# Altium integrated library Xilinx XC4000.IntLib: 294 symbols (part 3 of 21)
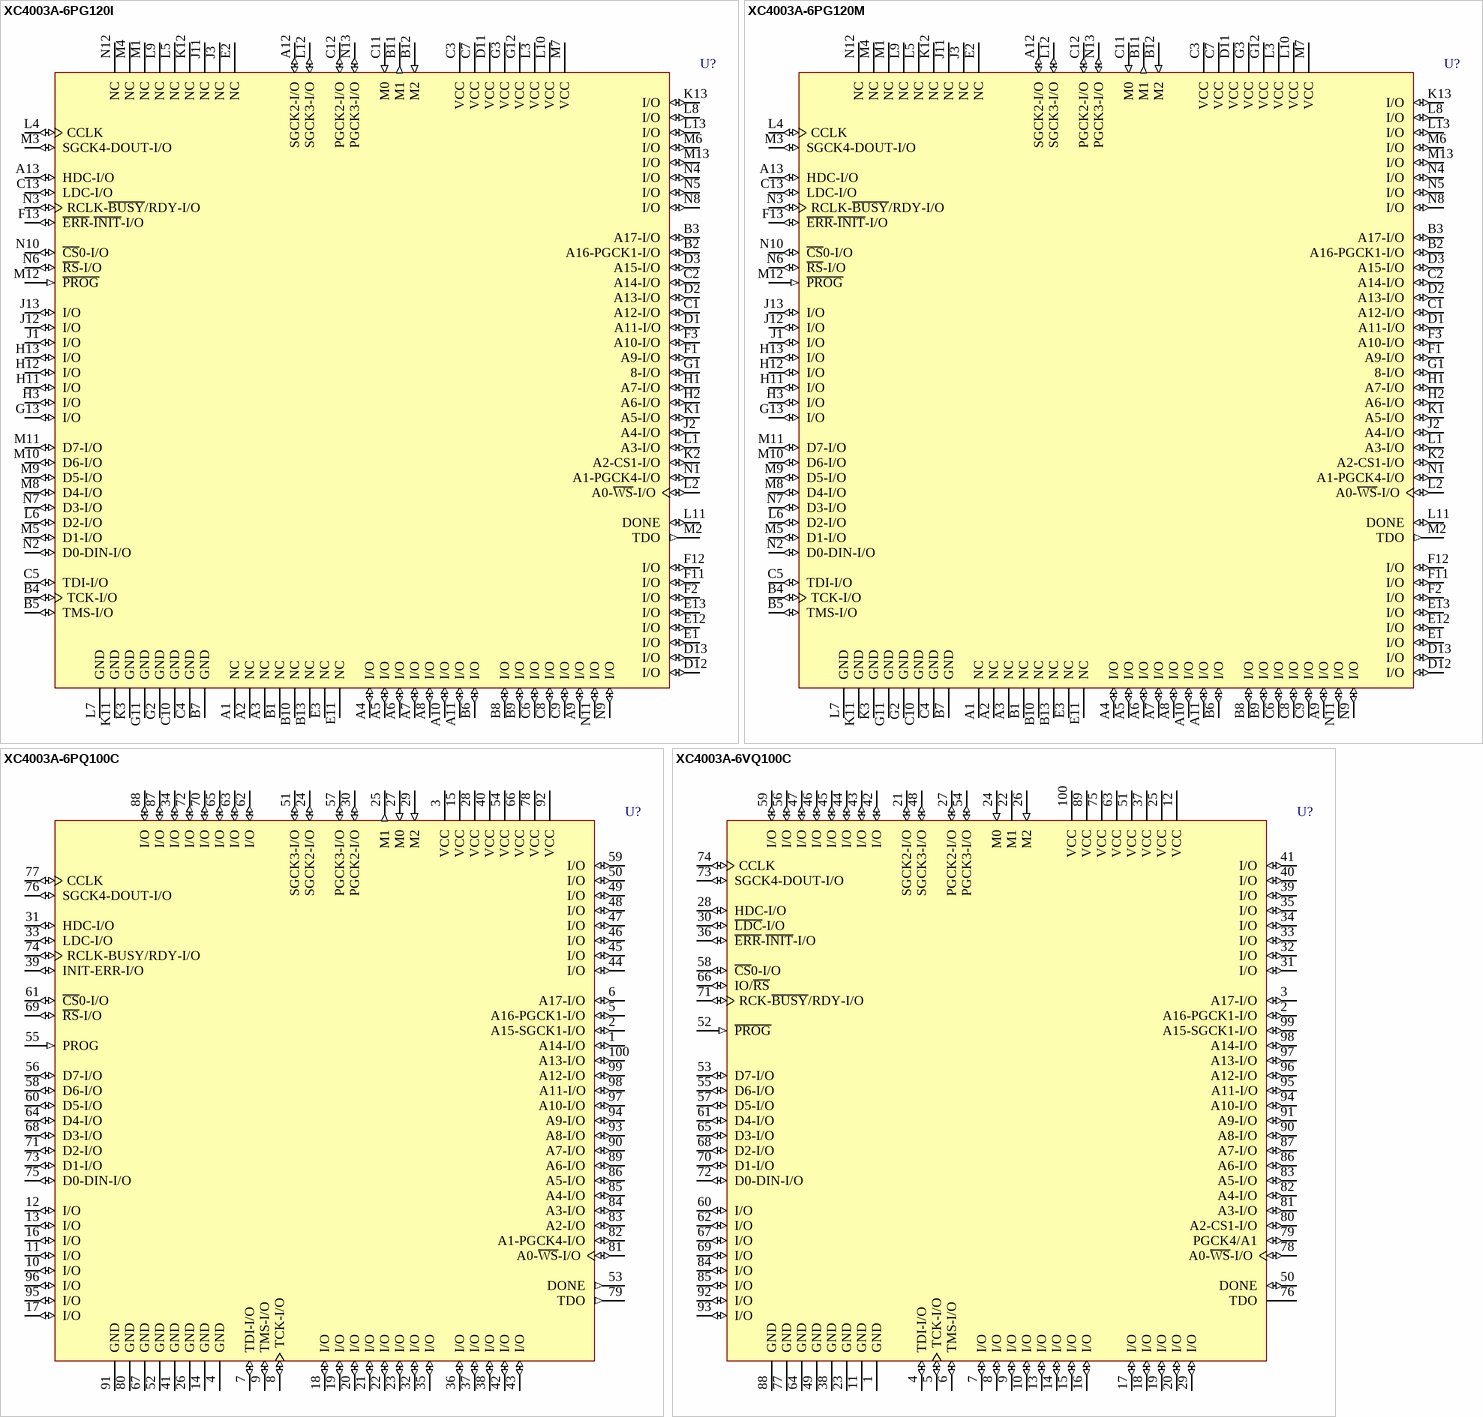
[diagram p231: symbols XC4003A-6PG120I to XC4003A-6VQ100C]

## XC4003A-6VQ100C
designator U?
Logic Cell Array, with 77 I/O Pins, 100-Pin VQFP, Commercial Grade; ComponentAvailability: Not for New Design; Published: 8-Jun-2000; LatestRevisionDate: 13-Apr-2006; LatestRevisionNote: IPC-7351 Footprint Added.; DatasheetVersion: 1994; PackageVersion: ver1.2, Jun-2004; PackageReference: VQ100; Publisher: Altium Limited; PackageDescription: 100-Pin Very Thin Quad Flat Pack (VQ100); Code_JEDEC: MS-026-AED; ComponentLink1Description: Manufacturer Link; ComponentLink1URL: http://www.xilinx.com/; ComponentLink2Description: Datasheet; ComponentLink2URL: http://direct.xilinx.com/bvdocs/publications/4000.pdf
footprint VQ100_N (Thin QFP, 100-Leads, Body 14x14mm, Pitch 0.5mm, IPC Medium Density)
footprint VQ100_L (Thin QFP, 100-Leads, Body 14x14mm, Pitch 0.5mm, IPC High Density)
footprint VQ100_M (Thin QFP, 100-Leads, Body 14x14mm, Pitch 0.5mm, IPC Low Density)
3D model XC4003A-VQ100 (100-Pin Very Thin Quad Flat Pack (VQ100))
pins: 1 GND (power), 2 A16-PGCK1-I/O (io), 3 A17-I/O (io), 4 TDI-I/O (io), 5 TCK-I/O (io), 6 TMS-I/O (io), 7 I/O (io), 8 I/O (io), 9 I/O (io), 10 I/O (io), 11 GND (power), 12 VCC (power), 13 I/O (io), 14 I/O (io), 15 I/O (io), 16 I/O (io), 17 I/O (io), 18 I/O (io), 19 I/O (io), 20 I/O (io), 21 SGCK2-I/O (io), 22 M1 (hiz), 23 GND (power), 24 M0 (in), 25 VCC (power), 26 M2 (in), 27 PGCK2-I/O (io), 28 HDC-I/O (io), 29 I/O (io), 30 ~{LDC}-I/O (io), 31 I/O (io), 32 I/O (io), 33 I/O (io), 34 I/O (io), 35 I/O (io), 36 ~{ERR}-~{INIT}-I/O (io), 37 VCC (power), 38 GND (power), 39 I/O (io), 40 I/O (io), 41 I/O (io), 42 I/O (io), 43 I/O (io), 44 I/O (io), 45 I/O (io), 46 I/O (io), 47 I/O (io), 48 SGCK3-I/O (io), 49 GND (power), 50 DONE (io), 51 VCC (power), 52 ~{PROG} (in), 53 D7-I/O (io), 54 PGCK3-I/O (io), 55 D6-I/O (io), 56 I/O (io), 57 D5-I/O (io), 58 ~{CS}0-I/O (io), 59 I/O (io), 60 I/O (io), 61 D4-I/O (io), 62 I/O (io), 63 VCC (power), 64 GND (power), 65 D3-I/O (io), 66 IO/~{RS} (io), 67 I/O (io), 68 D2-I/O (io), 69 I/O (io), 70 D1-I/O (io), 71 RCK-~{BUSY}/RDY-I/O (io), 72 D0-DIN-I/O (io), 73 SGCK4-DOUT-I/O (io), 74 CCLK (io), 75 VCC (power), 76 TDO (hiz), 77 GND (power), 78 A0-~{WS}-I/O (io), 79 PGCK4/A1 (io), 80 A2-CS1-I/O (io), 81 A3-I/O (io), 82 A4-I/O (io), 83 A5-I/O (io), 84 I/O (io), 85 I/O (io), 86 A6-I/O (io), 87 A7-I/O (io), 88 GND (power), 89 VCC (power), 90 A8-I/O (io), 91 A9-I/O (io), 92 I/O (io), 93 I/O (io), 94 A10-I/O (io), 95 A11-I/O (io), 96 A12-I/O (io), 97 A13-I/O (io), 98 A14-I/O (io), 99 A15-SGCK1-I/O (io), 100 VCC (power)

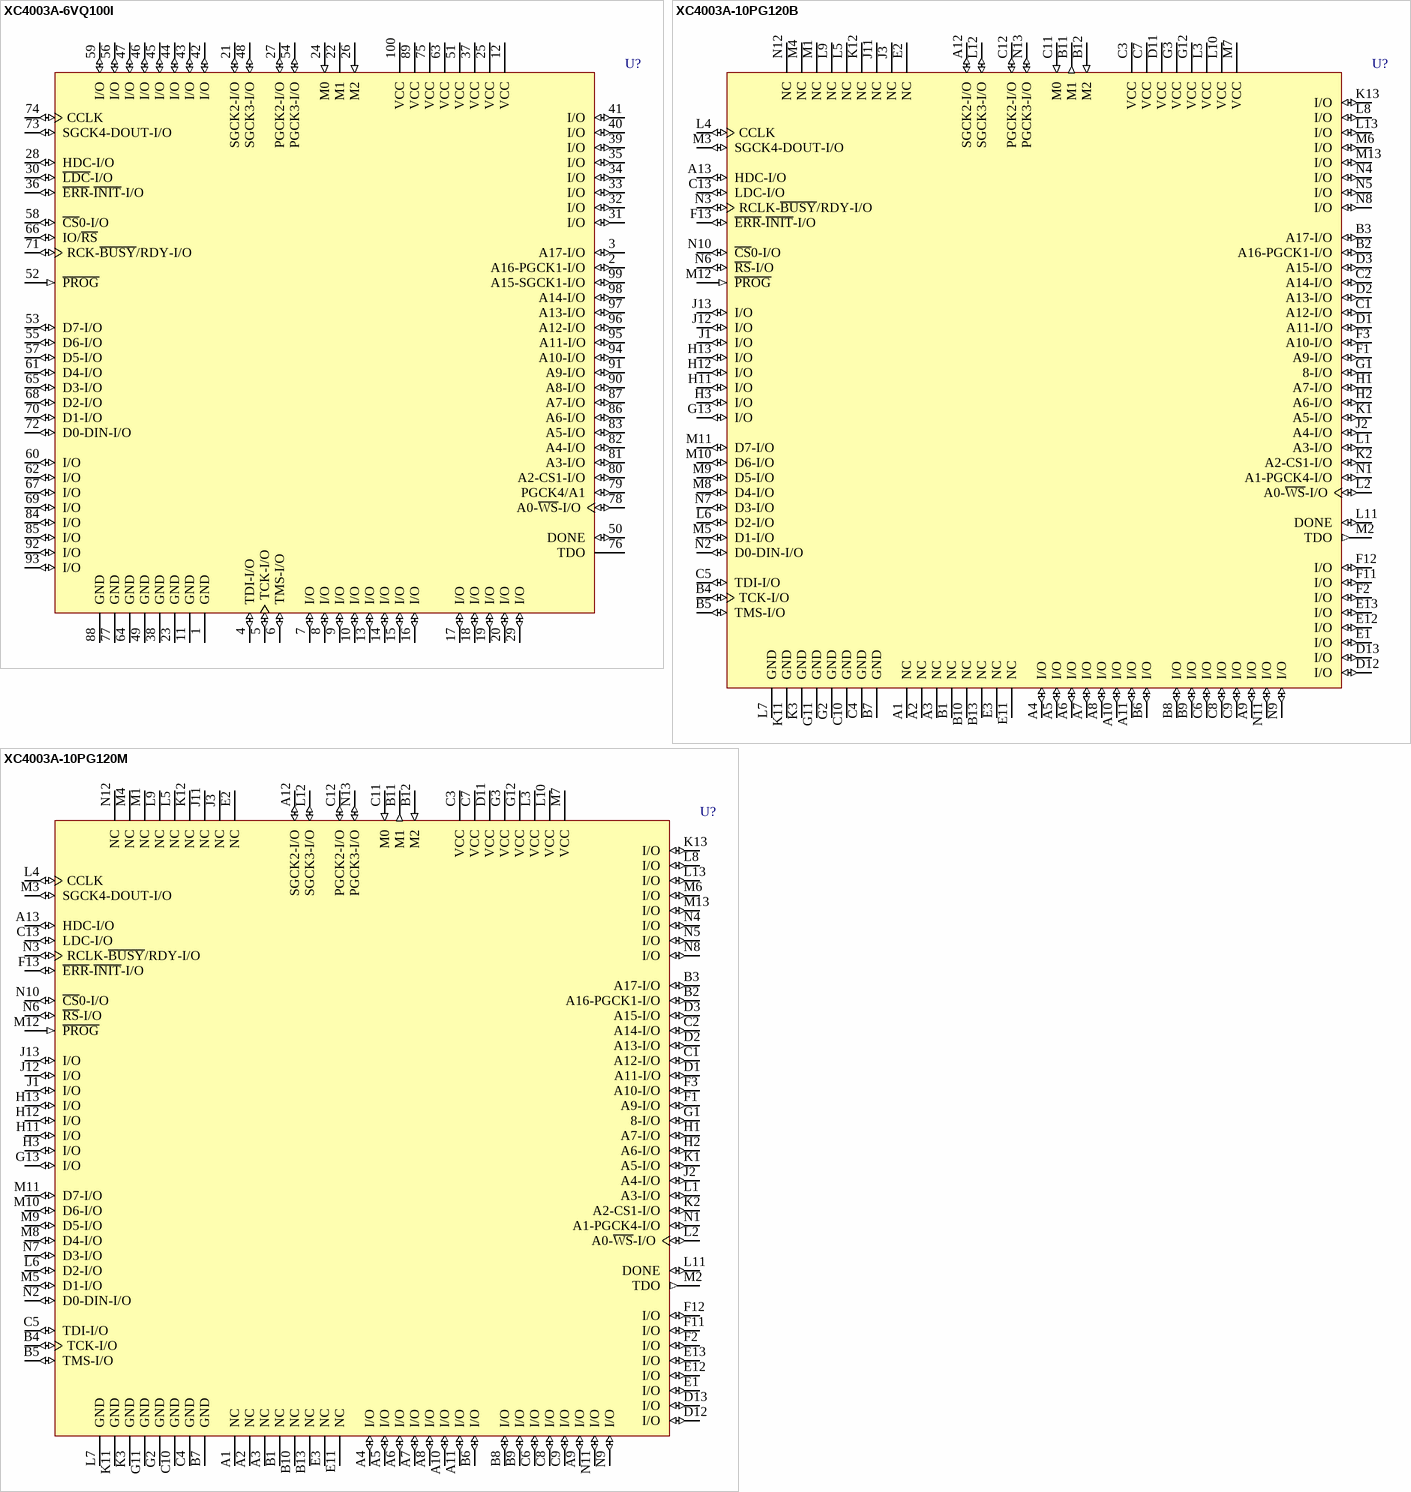
[diagram p10: symbols XC4003A-6VQ100I to XC4003A-10PG120M]

## XC4003A-6VQ100I
designator U?
Logic Cell Array, with 77 I/O Pins, 100-Pin VQFP, Industrial Grade; ComponentAvailability: Not for New Design; Published: 8-Jun-2000; LatestRevisionDate: 13-Apr-2006; LatestRevisionNote: IPC-7351 Footprint Added.; DatasheetVersion: 1994; PackageVersion: ver1.2, Jun-2004; PackageReference: VQ100; Publisher: Altium Limited; PackageDescription: 100-Pin Very Thin Quad Flat Pack (VQ100); Code_JEDEC: MS-026-AED; ComponentLink1Description: Manufacturer Link; ComponentLink1URL: http://www.xilinx.com/; ComponentLink2Description: Datasheet; ComponentLink2URL: http://direct.xilinx.com/bvdocs/publications/4000.pdf
footprint VQ100_N (Thin QFP, 100-Leads, Body 14x14mm, Pitch 0.5mm, IPC Medium Density)
footprint VQ100_L (Thin QFP, 100-Leads, Body 14x14mm, Pitch 0.5mm, IPC High Density)
footprint VQ100_M (Thin QFP, 100-Leads, Body 14x14mm, Pitch 0.5mm, IPC Low Density)
3D model XC4003A-VQ100 (100-Pin Very Thin Quad Flat Pack (VQ100))
pins: 1 GND (power), 2 A16-PGCK1-I/O (io), 3 A17-I/O (io), 4 TDI-I/O (io), 5 TCK-I/O (io), 6 TMS-I/O (io), 7 I/O (io), 8 I/O (io), 9 I/O (io), 10 I/O (io), 11 GND (power), 12 VCC (power), 13 I/O (io), 14 I/O (io), 15 I/O (io), 16 I/O (io), 17 I/O (io), 18 I/O (io), 19 I/O (io), 20 I/O (io), 21 SGCK2-I/O (io), 22 M1 (hiz), 23 GND (power), 24 M0 (in), 25 VCC (power), 26 M2 (in), 27 PGCK2-I/O (io), 28 HDC-I/O (io), 29 I/O (io), 30 ~{LDC}-I/O (io), 31 I/O (io), 32 I/O (io), 33 I/O (io), 34 I/O (io), 35 I/O (io), 36 ~{ERR}-~{INIT}-I/O (io), 37 VCC (power), 38 GND (power), 39 I/O (io), 40 I/O (io), 41 I/O (io), 42 I/O (io), 43 I/O (io), 44 I/O (io), 45 I/O (io), 46 I/O (io), 47 I/O (io), 48 SGCK3-I/O (io), 49 GND (power), 50 DONE (io), 51 VCC (power), 52 ~{PROG} (in), 53 D7-I/O (io), 54 PGCK3-I/O (io), 55 D6-I/O (io), 56 I/O (io), 57 D5-I/O (io), 58 ~{CS}0-I/O (io), 59 I/O (io), 60 I/O (io), 61 D4-I/O (io), 62 I/O (io), 63 VCC (power), 64 GND (power), 65 D3-I/O (io), 66 IO/~{RS} (io), 67 I/O (io), 68 D2-I/O (io), 69 I/O (io), 70 D1-I/O (io), 71 RCK-~{BUSY}/RDY-I/O (io), 72 D0-DIN-I/O (io), 73 SGCK4-DOUT-I/O (io), 74 CCLK (io), 75 VCC (power), 76 TDO (hiz), 77 GND (power), 78 A0-~{WS}-I/O (io), 79 PGCK4/A1 (io), 80 A2-CS1-I/O (io), 81 A3-I/O (io), 82 A4-I/O (io), 83 A5-I/O (io), 84 I/O (io), 85 I/O (io), 86 A6-I/O (io), 87 A7-I/O (io), 88 GND (power), 89 VCC (power), 90 A8-I/O (io), 91 A9-I/O (io), 92 I/O (io), 93 I/O (io), 94 A10-I/O (io), 95 A11-I/O (io), 96 A12-I/O (io), 97 A13-I/O (io), 98 A14-I/O (io), 99 A15-SGCK1-I/O (io), 100 VCC (power)

## XC4003A-10PG120B
designator U?
Logic Cell Array, with 80 I/O Pins, 120-Pin PGA, Military Class B Grade; ComponentAvailability: Not for New Design; Published: 8-Jun-2000; LatestRevisionDate: 04-Mar-2005; LatestRevisionNote: Stylized 3D Model Added.; DatasheetVersion: 1994; PackageVersion: ver1.1, Apr-2001; PackageReference: PG120; Publisher: Altium Limited; PackageDescription: 120-Pin Ceramic Pin Grid Array (PG120); Code_JEDEC: MO-067-AE; ComponentLink1Description: Manufacturer Link; ComponentLink1URL: http://www.xilinx.com/; ComponentLink2Description: Datasheet; ComponentLink2URL: http://direct.xilinx.com/bvdocs/publications/4000.pdf
footprint PG120 (PGA, 120-Leads, Body 34.5x34.5mm, Pitch 2.54mm)
3D model XC4003A-PG120 (120-Pin Ceramic Pin Grid Array (PG120))
pins: A1 NC, A2 NC, A3 NC, A4 I/O (io), A5 I/O (io), A6 I/O (io), A7 I/O (io), A8 I/O (io), A9 I/O (io), A10 I/O (io), A11 I/O (io), A12 SGCK2-I/O (io), A13 HDC-I/O (io), B1 NC, B2 A16-PGCK1-I/O (io), B3 A17-I/O (io), B4 TCK-I/O (io), B5 TMS-I/O (io), B6 I/O (io), B7 GND (power), B8 I/O (io), B9 I/O (io), B10 NC, B11 M1 (out), B12 M2 (in), B13 NC, C1 A12-I/O (io), C2 A14-I/O (io), C3 VCC (power), C4 GND (power), C5 TDI-I/O (io), C6 I/O (io), C7 VCC (power), C8 I/O (io), C9 I/O (io), C10 GND (power), C11 M0 (in), C12 PGCK2-I/O (io), C13 LDC-I/O (io), D1 A11-I/O (io), D2 A13-I/O (io), D3 A15-I/O (io), D11 VCC (power), D12 I/O (io), D13 I/O (io), E1 I/O (io), E2 NC, E3 NC, E11 NC, E12 I/O (io), E13 I/O (io), F1 A9-I/O (io), F2 I/O (io), F3 A10-I/O (io), F11 I/O (io), F12 I/O (io), F13 ~{ERR}-~{INIT}-I/O (io), G1 8-I/O (io), G2 GND (power), G3 VCC (power), G11 GND (power), G12 VCC (power), G13 I/O (io), H1 A7-I/O (io), H2 A6-I/O (io), H3 I/O (io), H11 I/O (io), H12 I/O (io), H13 I/O (io), J1 I/O (io), J2 A4-I/O (io), J3 NC, J11 NC, J12 I/O (io), J13 I/O (io), K1 A5-I/O (io), K2 A2-CS1-I/O (io), K3 GND (power), K11 GND (power), K12 NC, K13 I/O (io), L1 A3-I/O (io), L2 A0-~{WS}-I/O (io), L3 VCC (power), L4 CCLK (io), L5 NC, L6 D2-I/O (io), L7 GND (power), L8 I/O (io), L9 NC, L10 VCC (power), L11 DONE (io), L12 SGCK3-I/O (io), L13 I/O (io), M1 NC, M2 TDO (out), M3 SGCK4-DOUT-I/O (io), M4 NC, M5 D1-I/O (io), M6 I/O (io), M7 VCC (power), M8 D4-I/O (io), M9 D5-I/O (io), M10 D6-I/O (io), M11 D7-I/O (io), M12 ~{PROG} (in), M13 I/O (io), N1 A1-PGCK4-I/O (io), N2 D0-DIN-I/O (io), N3 RCLK-~{BUSY}/RDY-I/O (io), N4 I/O (io), N5 I/O (io), N6 ~{RS}-I/O (io), N7 D3-I/O (io), N8 I/O (io), N9 I/O (io), N10 ~{CS}0-I/O (io), N11 I/O (io), N12 NC, N13 PGCK3-I/O (io)

## XC4003A-10PG120M
designator U?
Logic Cell Array, with 80 I/O Pins, 120-Pin PGA, Military Grade; ComponentAvailability: Not for New Design; Published: 8-Jun-2000; LatestRevisionDate: 04-Mar-2005; LatestRevisionNote: Stylized 3D Model Added.; DatasheetVersion: 1994; PackageVersion: ver1.1, Apr-2001; PackageReference: PG120; Publisher: Altium Limited; PackageDescription: 120-Pin Ceramic Pin Grid Array (PG120); Code_JEDEC: MO-067-AE; ComponentLink1Description: Manufacturer Link; ComponentLink1URL: http://www.xilinx.com/; ComponentLink2Description: Datasheet; ComponentLink2URL: http://direct.xilinx.com/bvdocs/publications/4000.pdf
footprint PG120 (PGA, 120-Leads, Body 34.5x34.5mm, Pitch 2.54mm)
3D model XC4003A-PG120 (120-Pin Ceramic Pin Grid Array (PG120))
pins: A1 NC, A2 NC, A3 NC, A4 I/O (io), A5 I/O (io), A6 I/O (io), A7 I/O (io), A8 I/O (io), A9 I/O (io), A10 I/O (io), A11 I/O (io), A12 SGCK2-I/O (io), A13 HDC-I/O (io), B1 NC, B2 A16-PGCK1-I/O (io), B3 A17-I/O (io), B4 TCK-I/O (io), B5 TMS-I/O (io), B6 I/O (io), B7 GND (power), B8 I/O (io), B9 I/O (io), B10 NC, B11 M1 (out), B12 M2 (in), B13 NC, C1 A12-I/O (io), C2 A14-I/O (io), C3 VCC (power), C4 GND (power), C5 TDI-I/O (io), C6 I/O (io), C7 VCC (power), C8 I/O (io), C9 I/O (io), C10 GND (power), C11 M0 (in), C12 PGCK2-I/O (io), C13 LDC-I/O (io), D1 A11-I/O (io), D2 A13-I/O (io), D3 A15-I/O (io), D11 VCC (power), D12 I/O (io), D13 I/O (io), E1 I/O (io), E2 NC, E3 NC, E11 NC, E12 I/O (io), E13 I/O (io), F1 A9-I/O (io), F2 I/O (io), F3 A10-I/O (io), F11 I/O (io), F12 I/O (io), F13 ~{ERR}-~{INIT}-I/O (io), G1 8-I/O (io), G2 GND (power), G3 VCC (power), G11 GND (power), G12 VCC (power), G13 I/O (io), H1 A7-I/O (io), H2 A6-I/O (io), H3 I/O (io), H11 I/O (io), H12 I/O (io), H13 I/O (io), J1 I/O (io), J2 A4-I/O (io), J3 NC, J11 NC, J12 I/O (io), J13 I/O (io), K1 A5-I/O (io), K2 A2-CS1-I/O (io), K3 GND (power), K11 GND (power), K12 NC, K13 I/O (io), L1 A3-I/O (io), L2 A0-~{WS}-I/O (io), L3 VCC (power), L4 CCLK (io), L5 NC, L6 D2-I/O (io), L7 GND (power), L8 I/O (io), L9 NC, L10 VCC (power), L11 DONE (io), L12 SGCK3-I/O (io), L13 I/O (io), M1 NC, M2 TDO (out), M3 SGCK4-DOUT-I/O (io), M4 NC, M5 D1-I/O (io), M6 I/O (io), M7 VCC (power), M8 D4-I/O (io), M9 D5-I/O (io), M10 D6-I/O (io), M11 D7-I/O (io), M12 ~{PROG} (in), M13 I/O (io), N1 A1-PGCK4-I/O (io), N2 D0-DIN-I/O (io), N3 RCLK-~{BUSY}/RDY-I/O (io), N4 I/O (io), N5 I/O (io), N6 ~{RS}-I/O (io), N7 D3-I/O (io), N8 I/O (io), N9 I/O (io), N10 ~{CS}0-I/O (io), N11 I/O (io), N12 NC, N13 PGCK3-I/O (io)

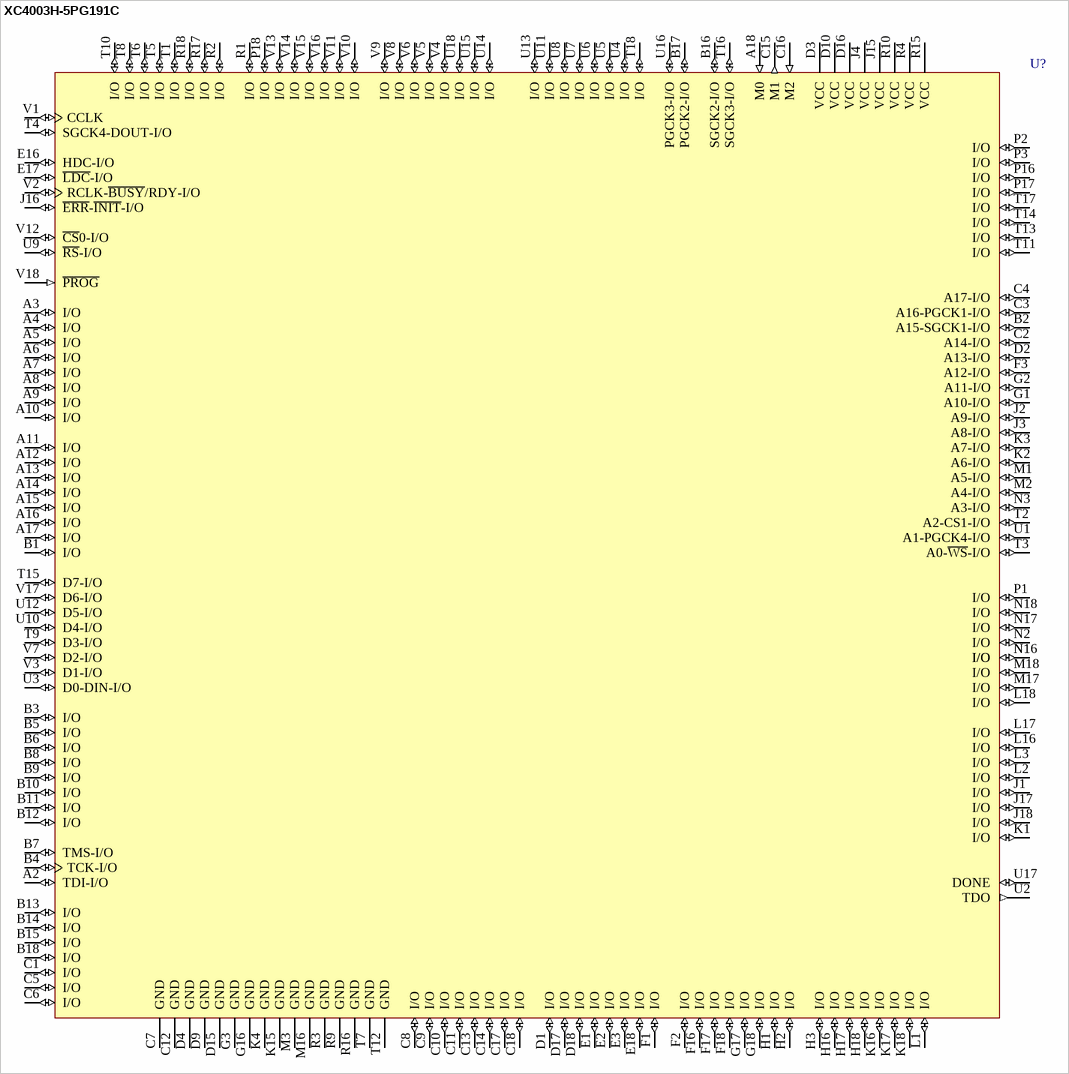
[diagram p11: symbol XC4003H-5PG191C]

## XC4003H-5PG191C
designator U?
High I/O Count Logic Cell Array , with 160 I/O Pins, 191-Pin PGA, Commercial Grade; ComponentAvailability: Not for New Design; Published: 8-Jun-2000; LatestRevisionDate: 04-Mar-2005; LatestRevisionNote: Stylized 3D Model Added.; DatasheetVersion: 1994; PackageVersion: ver1.1, Apr-2001; PackageReference: PG191; Publisher: Altium Limited; PackageDescription: 191-Pin Ceramic Pin Grid Array (PG191); ComponentLink1Description: Manufacturer Link; ComponentLink1URL: http://www.xilinx.com/; ComponentLink2Description: Datasheet; ComponentLink2URL: http://direct.xilinx.com/bvdocs/publications/4000.pdf
footprint PG191 (PGA, 191-Leads, Body 47x47mm, Pitch 2.54mm)
3D model XC4003H-PG191 (191-Pin Ceramic Pin Grid Array (PG191))
pins: A2 TDI-I/O (io), A3 I/O (io), A4 I/O (io), A5 I/O (io), A6 I/O (io), A7 I/O (io), A8 I/O (io), A9 I/O (io), A10 I/O (io), A11 I/O (io), A12 I/O (io), A13 I/O (io), A14 I/O (io), A15 I/O (io), A16 I/O (io), A17 I/O (io), A18 M0 (in), B1 I/O (io), B2 A15-SGCK1-I/O (io), B3 I/O (io), B4 TCK-I/O (io), B5 I/O (io), B6 I/O (io), B7 TMS-I/O (io), B8 I/O (io), B9 I/O (io), B10 I/O (io), B11 I/O (io), B12 I/O (io), B13 I/O (io), B14 I/O (io), B15 I/O (io), B16 SGCK2-I/O (io), B17 PGCK2-I/O (io), B18 I/O (io), C1 I/O (io), C2 A14-I/O (io), C3 A16-PGCK1-I/O (io), C4 A17-I/O (io), C5 I/O (io), C6 I/O (io), C7 GND (power), C8 I/O (io), C9 I/O (io), C10 I/O (io), C11 I/O (io), C12 GND (power), C13 I/O (io), C14 I/O (io), C15 M1 (out), C16 M2 (in), C17 I/O (io), C18 I/O (io), D1 I/O (io), D2 A13-I/O (io), D3 VCC (power), D4 GND (power), D9 GND (power), D10 VCC (power), D15 GND (power), D16 VCC (power), D17 I/O (io), D18 I/O (io), E1 I/O (io), E2 I/O (io), E3 I/O (io), E16 HDC-I/O (io), E17 ~{LDC}-I/O (io), E18 I/O (io), F1 I/O (io), F2 I/O (io), F3 A12-I/O (io), F16 I/O (io), F17 I/O (io), F18 I/O (io), G1 A10-I/O (io), G2 A11-I/O (io), G3 GND (power), G16 GND (power), G17 I/O (io), G18 I/O (io), H1 I/O (io), H2 I/O (io), H3 I/O (io), H16 I/O (io), H17 I/O (io), H18 I/O (io), J1 I/O (io), J2 A9-I/O (io), J3 A8-I/O (io), J4 VCC (power), J15 VCC (power), J16 ~{ERR}-~{INIT}-I/O (io), J17 I/O (io), J18 I/O (io), K1 I/O (io), K2 A6-I/O (io), K3 A7-I/O (io), K4 GND (power), K15 GND (power), K16 I/O (io), K17 I/O (io), K18 I/O (io), L1 I/O (io), L2 I/O (io), L3 I/O (io), L16 I/O (io), L17 I/O (io), L18 I/O (io), M1 A5-I/O (io), M2 A4-I/O (io), M3 GND (power), M16 GND (power), M17 I/O (io), M18 I/O (io), N1 I/O (io), N2 I/O (io), N3 A3-I/O (io), N16 I/O (io), N17 I/O (io), N18 I/O (io), P1 I/O (io), P2 I/O (io), P3 I/O (io), P16 I/O (io), P17 I/O (io), P18 I/O (io), R1 I/O (io), R2 I/O (io), R3 GND (power), R4 VCC (power), R9 GND (power), R10 VCC (power), R15 VCC (power), R16 GND (power), R17 I/O (io), R18 I/O (io), T1 I/O (io), T2 A2-CS1-I/O (io), T3 A0-~{WS}-I/O (io), T4 SGCK4-DOUT-I/O (io), T5 I/O (io), T6 I/O (io), T7 GND (power), T8 I/O (io), T9 D3-I/O (io), T10 I/O (io), T11 I/O (io), T12 GND (power), T13 I/O (io), T14 I/O (io), T15 D7-I/O (io), T16 SGCK3-I/O (io), T17 I/O (io), T18 I/O (io), U1 A1-PGCK4-I/O (io), U2 TDO (out), U3 D0-DIN-I/O (io), U4 I/O (io), U5 I/O (io), U6 I/O (io), U7 I/O (io), U8 I/O (io), U9 ~{RS}-I/O (io), U10 D4-I/O (io), U11 I/O (io), U12 D5-I/O (io), U13 I/O (io), U14 I/O (io), U15 I/O (io), U16 PGCK3-I/O (io), U17 DONE (io), U18 I/O (io), V1 CCLK (io), V2 RCLK-~{BUSY}/RDY-I/O (io), V3 D1-I/O (io), V4 I/O (io), V5 I/O (io), V6 I/O (io), V7 D2-I/O (io), V8 I/O (io), V9 I/O (io), V10 I/O (io), V11 I/O (io), V12 ~{CS}0-I/O (io), V13 I/O (io), V14 I/O (io), V15 I/O (io), V16 I/O (io), V17 D6-I/O (io), V18 ~{PROG} (in)

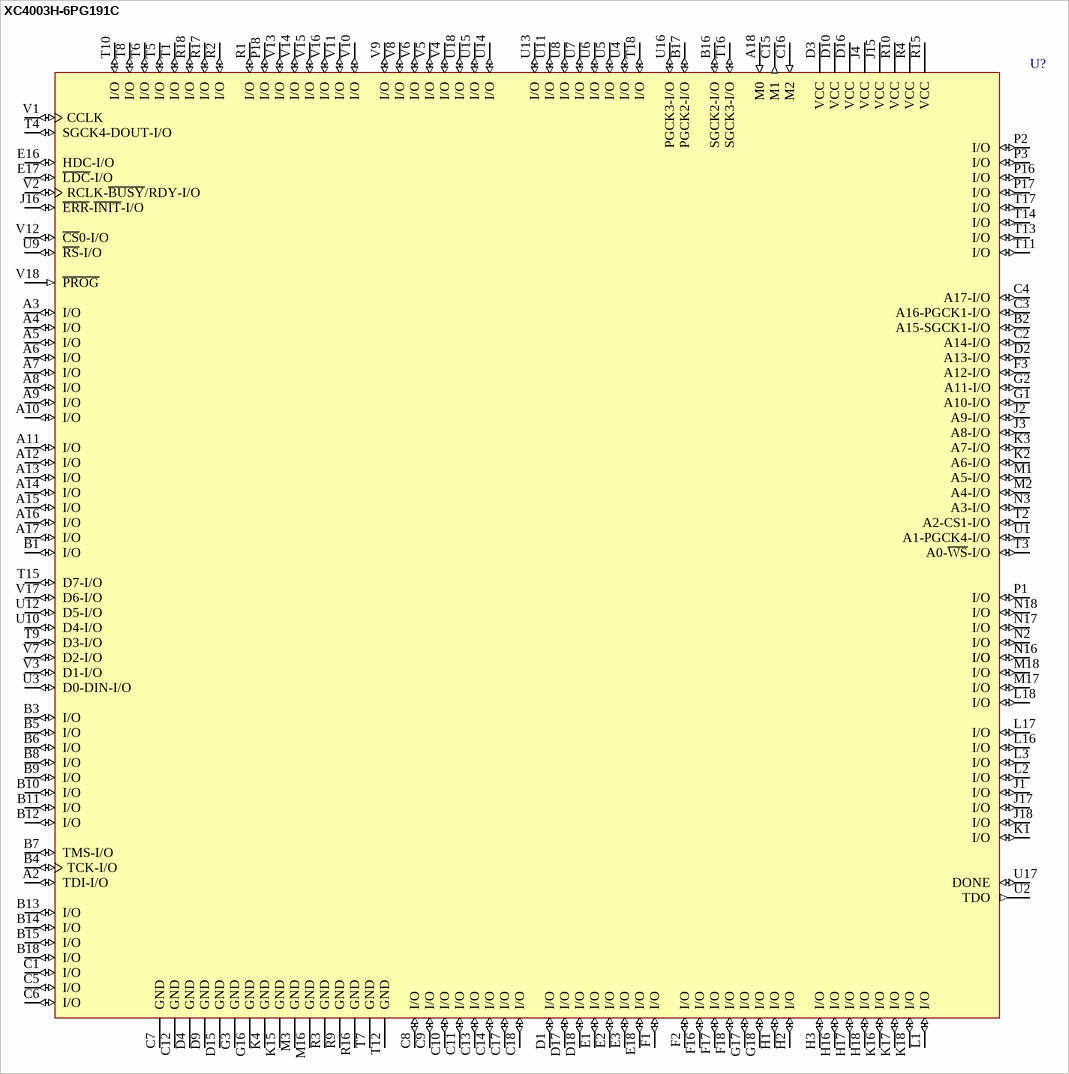
[diagram p12: symbol XC4003H-6PG191C]

## XC4003H-6PG191C
designator U?
High I/O Count Logic Cell Array , with 160 I/O Pins, 191-Pin PGA, Commercial Grade; ComponentAvailability: Not for New Design; Published: 8-Jun-2000; LatestRevisionDate: 04-Mar-2005; LatestRevisionNote: Stylized 3D Model Added.; DatasheetVersion: 1994; PackageVersion: ver1.1, Apr-2001; PackageReference: PG191; Publisher: Altium Limited; PackageDescription: 191-Pin Ceramic Pin Grid Array (PG191); ComponentLink1Description: Manufacturer Link; ComponentLink1URL: http://www.xilinx.com/; ComponentLink2Description: Datasheet; ComponentLink2URL: http://direct.xilinx.com/bvdocs/publications/4000.pdf
footprint PG191 (PGA, 191-Leads, Body 47x47mm, Pitch 2.54mm)
3D model XC4003H-PG191 (191-Pin Ceramic Pin Grid Array (PG191))
pins: A2 TDI-I/O (io), A3 I/O (io), A4 I/O (io), A5 I/O (io), A6 I/O (io), A7 I/O (io), A8 I/O (io), A9 I/O (io), A10 I/O (io), A11 I/O (io), A12 I/O (io), A13 I/O (io), A14 I/O (io), A15 I/O (io), A16 I/O (io), A17 I/O (io), A18 M0 (in), B1 I/O (io), B2 A15-SGCK1-I/O (io), B3 I/O (io), B4 TCK-I/O (io), B5 I/O (io), B6 I/O (io), B7 TMS-I/O (io), B8 I/O (io), B9 I/O (io), B10 I/O (io), B11 I/O (io), B12 I/O (io), B13 I/O (io), B14 I/O (io), B15 I/O (io), B16 SGCK2-I/O (io), B17 PGCK2-I/O (io), B18 I/O (io), C1 I/O (io), C2 A14-I/O (io), C3 A16-PGCK1-I/O (io), C4 A17-I/O (io), C5 I/O (io), C6 I/O (io), C7 GND (power), C8 I/O (io), C9 I/O (io), C10 I/O (io), C11 I/O (io), C12 GND (power), C13 I/O (io), C14 I/O (io), C15 M1 (out), C16 M2 (in), C17 I/O (io), C18 I/O (io), D1 I/O (io), D2 A13-I/O (io), D3 VCC (power), D4 GND (power), D9 GND (power), D10 VCC (power), D15 GND (power), D16 VCC (power), D17 I/O (io), D18 I/O (io), E1 I/O (io), E2 I/O (io), E3 I/O (io), E16 HDC-I/O (io), E17 ~{LDC}-I/O (io), E18 I/O (io), F1 I/O (io), F2 I/O (io), F3 A12-I/O (io), F16 I/O (io), F17 I/O (io), F18 I/O (io), G1 A10-I/O (io), G2 A11-I/O (io), G3 GND (power), G16 GND (power), G17 I/O (io), G18 I/O (io), H1 I/O (io), H2 I/O (io), H3 I/O (io), H16 I/O (io), H17 I/O (io), H18 I/O (io), J1 I/O (io), J2 A9-I/O (io), J3 A8-I/O (io), J4 VCC (power), J15 VCC (power), J16 ~{ERR}-~{INIT}-I/O (io), J17 I/O (io), J18 I/O (io), K1 I/O (io), K2 A6-I/O (io), K3 A7-I/O (io), K4 GND (power), K15 GND (power), K16 I/O (io), K17 I/O (io), K18 I/O (io), L1 I/O (io), L2 I/O (io), L3 I/O (io), L16 I/O (io), L17 I/O (io), L18 I/O (io), M1 A5-I/O (io), M2 A4-I/O (io), M3 GND (power), M16 GND (power), M17 I/O (io), M18 I/O (io), N1 I/O (io), N2 I/O (io), N3 A3-I/O (io), N16 I/O (io), N17 I/O (io), N18 I/O (io), P1 I/O (io), P2 I/O (io), P3 I/O (io), P16 I/O (io), P17 I/O (io), P18 I/O (io), R1 I/O (io), R2 I/O (io), R3 GND (power), R4 VCC (power), R9 GND (power), R10 VCC (power), R15 VCC (power), R16 GND (power), R17 I/O (io), R18 I/O (io), T1 I/O (io), T2 A2-CS1-I/O (io), T3 A0-~{WS}-I/O (io), T4 SGCK4-DOUT-I/O (io), T5 I/O (io), T6 I/O (io), T7 GND (power), T8 I/O (io), T9 D3-I/O (io), T10 I/O (io), T11 I/O (io), T12 GND (power), T13 I/O (io), T14 I/O (io), T15 D7-I/O (io), T16 SGCK3-I/O (io), T17 I/O (io), T18 I/O (io), U1 A1-PGCK4-I/O (io), U2 TDO (out), U3 D0-DIN-I/O (io), U4 I/O (io), U5 I/O (io), U6 I/O (io), U7 I/O (io), U8 I/O (io), U9 ~{RS}-I/O (io), U10 D4-I/O (io), U11 I/O (io), U12 D5-I/O (io), U13 I/O (io), U14 I/O (io), U15 I/O (io), U16 PGCK3-I/O (io), U17 DONE (io), U18 I/O (io), V1 CCLK (io), V2 RCLK-~{BUSY}/RDY-I/O (io), V3 D1-I/O (io), V4 I/O (io), V5 I/O (io), V6 I/O (io), V7 D2-I/O (io), V8 I/O (io), V9 I/O (io), V10 I/O (io), V11 I/O (io), V12 ~{CS}0-I/O (io), V13 I/O (io), V14 I/O (io), V15 I/O (io), V16 I/O (io), V17 D6-I/O (io), V18 ~{PROG} (in)

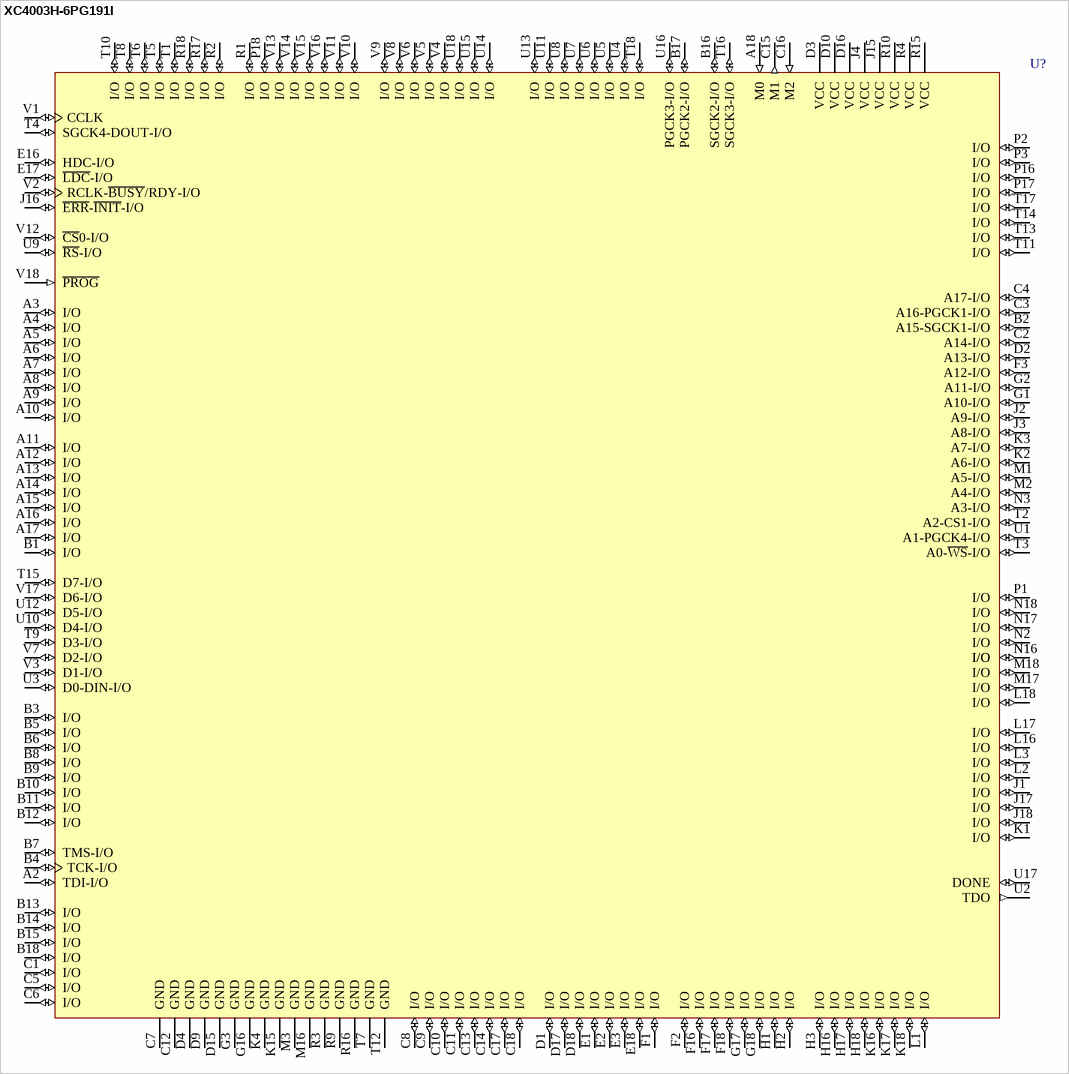
[diagram p13: symbol XC4003H-6PG191I]

## XC4003H-6PG191I
designator U?
High I/O Count Logic Cell Array , with 160 I/O Pins, 191-Pin PGA, Industrial Grade; ComponentAvailability: Not for New Design; Published: 8-Jun-2000; LatestRevisionDate: 04-Mar-2005; LatestRevisionNote: Stylized 3D Model Added.; DatasheetVersion: 1994; PackageVersion: ver1.1, Apr-2001; PackageReference: PG191; Publisher: Altium Limited; PackageDescription: 191-Pin Ceramic Pin Grid Array (PG191); ComponentLink1Description: Manufacturer Link; ComponentLink1URL: http://www.xilinx.com/; ComponentLink2Description: Datasheet; ComponentLink2URL: http://direct.xilinx.com/bvdocs/publications/4000.pdf
footprint PG191 (PGA, 191-Leads, Body 47x47mm, Pitch 2.54mm)
3D model XC4003H-PG191 (191-Pin Ceramic Pin Grid Array (PG191))
pins: A2 TDI-I/O (io), A3 I/O (io), A4 I/O (io), A5 I/O (io), A6 I/O (io), A7 I/O (io), A8 I/O (io), A9 I/O (io), A10 I/O (io), A11 I/O (io), A12 I/O (io), A13 I/O (io), A14 I/O (io), A15 I/O (io), A16 I/O (io), A17 I/O (io), A18 M0 (in), B1 I/O (io), B2 A15-SGCK1-I/O (io), B3 I/O (io), B4 TCK-I/O (io), B5 I/O (io), B6 I/O (io), B7 TMS-I/O (io), B8 I/O (io), B9 I/O (io), B10 I/O (io), B11 I/O (io), B12 I/O (io), B13 I/O (io), B14 I/O (io), B15 I/O (io), B16 SGCK2-I/O (io), B17 PGCK2-I/O (io), B18 I/O (io), C1 I/O (io), C2 A14-I/O (io), C3 A16-PGCK1-I/O (io), C4 A17-I/O (io), C5 I/O (io), C6 I/O (io), C7 GND (power), C8 I/O (io), C9 I/O (io), C10 I/O (io), C11 I/O (io), C12 GND (power), C13 I/O (io), C14 I/O (io), C15 M1 (out), C16 M2 (in), C17 I/O (io), C18 I/O (io), D1 I/O (io), D2 A13-I/O (io), D3 VCC (power), D4 GND (power), D9 GND (power), D10 VCC (power), D15 GND (power), D16 VCC (power), D17 I/O (io), D18 I/O (io), E1 I/O (io), E2 I/O (io), E3 I/O (io), E16 HDC-I/O (io), E17 ~{LDC}-I/O (io), E18 I/O (io), F1 I/O (io), F2 I/O (io), F3 A12-I/O (io), F16 I/O (io), F17 I/O (io), F18 I/O (io), G1 A10-I/O (io), G2 A11-I/O (io), G3 GND (power), G16 GND (power), G17 I/O (io), G18 I/O (io), H1 I/O (io), H2 I/O (io), H3 I/O (io), H16 I/O (io), H17 I/O (io), H18 I/O (io), J1 I/O (io), J2 A9-I/O (io), J3 A8-I/O (io), J4 VCC (power), J15 VCC (power), J16 ~{ERR}-~{INIT}-I/O (io), J17 I/O (io), J18 I/O (io), K1 I/O (io), K2 A6-I/O (io), K3 A7-I/O (io), K4 GND (power), K15 GND (power), K16 I/O (io), K17 I/O (io), K18 I/O (io), L1 I/O (io), L2 I/O (io), L3 I/O (io), L16 I/O (io), L17 I/O (io), L18 I/O (io), M1 A5-I/O (io), M2 A4-I/O (io), M3 GND (power), M16 GND (power), M17 I/O (io), M18 I/O (io), N1 I/O (io), N2 I/O (io), N3 A3-I/O (io), N16 I/O (io), N17 I/O (io), N18 I/O (io), P1 I/O (io), P2 I/O (io), P3 I/O (io), P16 I/O (io), P17 I/O (io), P18 I/O (io), R1 I/O (io), R2 I/O (io), R3 GND (power), R4 VCC (power), R9 GND (power), R10 VCC (power), R15 VCC (power), R16 GND (power), R17 I/O (io), R18 I/O (io), T1 I/O (io), T2 A2-CS1-I/O (io), T3 A0-~{WS}-I/O (io), T4 SGCK4-DOUT-I/O (io), T5 I/O (io), T6 I/O (io), T7 GND (power), T8 I/O (io), T9 D3-I/O (io), T10 I/O (io), T11 I/O (io), T12 GND (power), T13 I/O (io), T14 I/O (io), T15 D7-I/O (io), T16 SGCK3-I/O (io), T17 I/O (io), T18 I/O (io), U1 A1-PGCK4-I/O (io), U2 TDO (out), U3 D0-DIN-I/O (io), U4 I/O (io), U5 I/O (io), U6 I/O (io), U7 I/O (io), U8 I/O (io), U9 ~{RS}-I/O (io), U10 D4-I/O (io), U11 I/O (io), U12 D5-I/O (io), U13 I/O (io), U14 I/O (io), U15 I/O (io), U16 PGCK3-I/O (io), U17 DONE (io), U18 I/O (io), V1 CCLK (io), V2 RCLK-~{BUSY}/RDY-I/O (io), V3 D1-I/O (io), V4 I/O (io), V5 I/O (io), V6 I/O (io), V7 D2-I/O (io), V8 I/O (io), V9 I/O (io), V10 I/O (io), V11 I/O (io), V12 ~{CS}0-I/O (io), V13 I/O (io), V14 I/O (io), V15 I/O (io), V16 I/O (io), V17 D6-I/O (io), V18 ~{PROG} (in)

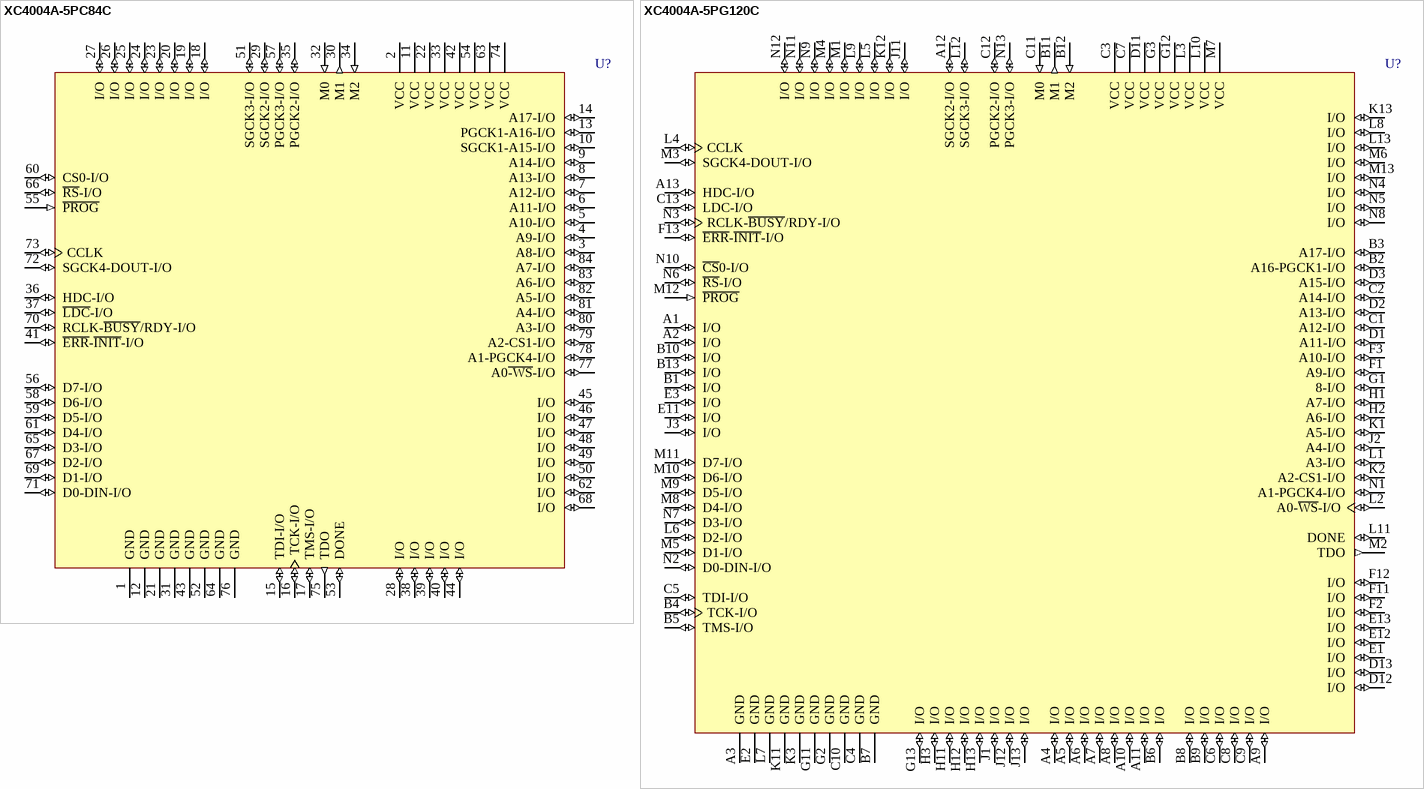
[diagram p14: symbols XC4004A-5PC84C to XC4004A-5PG120C]

## XC4004A-5PC84C
designator U?
Logic Cell Array, with 61 I/O Pins, 84-Pin PLCC, Commercial Grade; ComponentAvailability: Not for New Design; Published: 8-Jun-2000; LatestRevisionDate: 13-Apr-2006; LatestRevisionNote: IPC-7351 Footprint Added.; DatasheetVersion: 1994; PackageVersion: ver1.2, Jun-2004; PackageReference: PC84; Publisher: Altium Limited; PackageDescription: 84-Pin Plastic Leaded Chip Carrier (PC84); Code_JEDEC: MS-047; Code_IPC: PLCC-84; ComponentLink1Description: Manufacturer Link; ComponentLink1URL: http://www.xilinx.com/; ComponentLink2Description: Datasheet; ComponentLink2URL: http://direct.xilinx.com/bvdocs/publications/4000.pdf
footprint PC84_N (Leaded Chip Carrier, 84-Leads, Body 29.3x29.3mm, Pitch 1.27mm, IPC Medium Density)
footprint PC84_L (Leaded Chip Carrier, 84-Leads, Body 29.3x29.3mm, Pitch 1.27mm, IPC High Density)
footprint PC84_M (Leaded Chip Carrier, 84-Leads, Body 29.3x29.3mm, Pitch 1.27mm, IPC Low Density)
3D model XC4004A-PC84 (84-Pin Plastic Leaded Chip Carrier (PC84))
pins: 1 GND (power), 2 VCC (power), 3 A8-I/O (io), 4 A9-I/O (io), 5 A10-I/O (io), 6 A11-I/O (io), 7 A12-I/O (io), 8 A13-I/O (io), 9 A14-I/O (io), 10 SGCK1-A15-I/O (io), 11 VCC (power), 12 GND (power), 13 PGCK1-A16-I/O (io), 14 A17-I/O (io), 15 TDI-I/O (io), 16 TCK-I/O (io), 17 TMS-I/O (io), 18 I/O (io), 19 I/O (io), 20 I/O (io), 21 GND (power), 22 VCC (power), 23 I/O (io), 24 I/O (io), 25 I/O (io), 26 I/O (io), 27 I/O (io), 28 I/O (io), 29 SGCK2-I/O (io), 30 M1 (out), 31 GND (power), 32 M0 (in), 33 VCC (power), 34 M2 (in), 35 PGCK2-I/O (io), 36 HDC-I/O (io), 37 ~{LDC}-I/O (io), 38 I/O (io), 39 I/O (io), 40 I/O (io), 41 ~{ERR}-~{INIT}-I/O (io), 42 VCC (power), 43 GND (power), 44 I/O (io), 45 I/O (io), 46 I/O (io), 47 I/O (io), 48 I/O (io), 49 I/O (io), 50 I/O (io), 51 SGCK3-I/O (io), 52 GND (power), 53 DONE (io), 54 VCC (power), 55 ~{PROG} (in), 56 D7-I/O (io), 57 PGCK3-I/O (io), 58 D6-I/O (io), 59 D5-I/O (io), 60 CS0-I/O (io), 61 D4-I/O (io), 62 I/O (io), 63 VCC (power), 64 GND (power), 65 D3-I/O (io), 66 ~{RS}-I/O (io), 67 D2-I/O (io), 68 I/O (io), 69 D1-I/O (io), 70 RCLK-~{BUSY}/RDY-I/O (io), 71 D0-DIN-I/O (io), 72 SGCK4-DOUT-I/O (io), 73 CCLK (io), 74 VCC (power), 75 TDO (out), 76 GND (power), 77 A0~{-WS}-I/O (io), 78 A1-PGCK4-I/O (io), 79 A2-CS1-I/O (io), 80 A3-I/O (io), 81 A4-I/O (io), 82 A5-I/O (io), 83 A6-I/O (io), 84 A7-I/O (io)

## XC4004A-5PG120C
designator U?
Logic Cell Array, with 95 I/O Pins, 120-Pin PGA, Commercial Grade; ComponentAvailability: Not for New Design; Published: 8-Jun-2000; LatestRevisionDate: 04-Mar-2005; LatestRevisionNote: Stylized 3D Model Added.; DatasheetVersion: 1994; PackageVersion: ver1.1, Apr-2001; PackageReference: PG120; Publisher: Altium Limited; PackageDescription: 120-Pin Ceramic Pin Grid Array (PG120); Code_JEDEC: MO-067-AE; ComponentLink1Description: Manufacturer Link; ComponentLink1URL: http://www.xilinx.com/; ComponentLink2Description: Datasheet; ComponentLink2URL: http://direct.xilinx.com/bvdocs/publications/4000.pdf
footprint PG120 (PGA, 120-Leads, Body 34.5x34.5mm, Pitch 2.54mm)
3D model XC4004A-PG120 (120-Pin Ceramic Pin Grid Array (PG120))
pins: A1 I/O (io), A2 I/O (io), A3 GND (power), A4 I/O (io), A5 I/O (io), A6 I/O (io), A7 I/O (io), A8 I/O (io), A9 I/O (io), A10 I/O (io), A11 I/O (io), A12 SGCK2-I/O (io), A13 HDC-I/O (io), B1 I/O (io), B2 A16-PGCK1-I/O (io), B3 A17-I/O (io), B4 TCK-I/O (io), B5 TMS-I/O (io), B6 I/O (io), B7 GND (power), B8 I/O (io), B9 I/O (io), B10 I/O (io), B11 M1 (out), B12 M2 (in), B13 I/O (io), C1 A12-I/O (io), C2 A14-I/O (io), C3 VCC (power), C4 GND (power), C5 TDI-I/O (io), C6 I/O (io), C7 VCC (power), C8 I/O (io), C9 I/O (io), C10 GND (power), C11 M0 (in), C12 PGCK2-I/O (io), C13 LDC-I/O (io), D1 A11-I/O (io), D2 A13-I/O (io), D3 A15-I/O (io), D11 VCC (power), D12 I/O (io), D13 I/O (io), E1 I/O (io), E2 GND (power), E3 I/O (io), E11 I/O (io), E12 I/O (io), E13 I/O (io), F1 A9-I/O (io), F2 I/O (io), F3 A10-I/O (io), F11 I/O (io), F12 I/O (io), F13 ~{ERR}-~{INIT}-I/O (io), G1 8-I/O (io), G2 GND (power), G3 VCC (power), G11 GND (power), G12 VCC (power), G13 I/O (io), H1 A7-I/O (io), H2 A6-I/O (io), H3 I/O (io), H11 I/O (io), H12 I/O (io), H13 I/O (io), J1 I/O (io), J2 A4-I/O (io), J3 I/O (io), J11 I/O (io), J12 I/O (io), J13 I/O (io), K1 A5-I/O (io), K2 A2-CS1-I/O (io), K3 GND (power), K11 GND (power), K12 I/O (io), K13 I/O (io), L1 A3-I/O (io), L2 A0-~{WS}-I/O (io), L3 VCC (power), L4 CCLK (io), L5 I/O (io), L6 D2-I/O (io), L7 GND (power), L8 I/O (io), L9 I/O (io), L10 VCC (power), L11 DONE (io), L12 SGCK3-I/O (io), L13 I/O (io), M1 I/O (io), M2 TDO (out), M3 SGCK4-DOUT-I/O (io), M4 I/O (io), M5 D1-I/O (io), M6 I/O (io), M7 VCC (power), M8 D4-I/O (io), M9 D5-I/O (io), M10 D6-I/O (io), M11 D7-I/O (io), M12 ~{PROG} (in), M13 I/O (io), N1 A1-PGCK4-I/O (io), N2 D0-DIN-I/O (io), N3 RCLK-~{BUSY}/RDY-I/O (io), N4 I/O (io), N5 I/O (io), N6 ~{RS}-I/O (io), N7 D3-I/O (io), N8 I/O (io), N9 I/O (io), N10 ~{CS}0-I/O (io), N11 I/O (io), N12 I/O (io), N13 PGCK3-I/O (io)

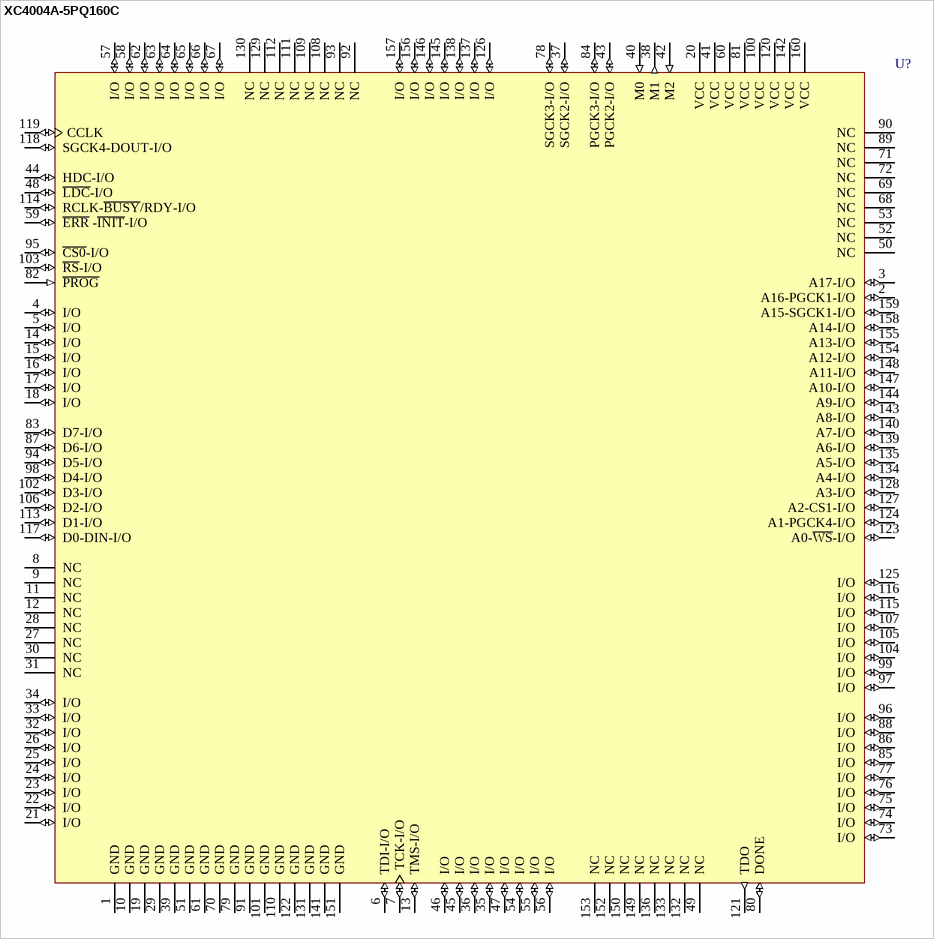
[diagram p15: symbol XC4004A-5PQ160C]

## XC4004A-5PQ160C
designator U?
Logic Cell Array, with 96 I/O Pins, 160-Pin PQFP, Commercial Grade; ComponentAvailability: Not for New Design; Published: 8-Jun-2000; LatestRevisionDate: 13-Apr-2006; LatestRevisionNote: IPC-7351 Footprint Added.; DatasheetVersion: 1994; PackageVersion: ver1.2, Jun-2004; PackageReference: PQ160; Publisher: Altium Limited; PackageDescription: 160-Pin Plastic Quad Flat Pack (PQ160); Code_JEDEC: MS-022-DD1; Code_IPC: QFP65P3120X3120-160; ComponentLink1Description: Manufacturer Link; ComponentLink1URL: http://www.xilinx.com/; ComponentLink2Description: Datasheet; ComponentLink2URL: http://direct.xilinx.com/bvdocs/publications/4000.pdf
footprint PQ160_N (QFP, 160-Leads, Body 28 x 28mm, Pitch 0.65mm, IPC Medium Density)
footprint PQ160_L (QFP, 160-Leads, Body 28 x 28mm, Pitch 0.65mm, IPC High Density)
footprint PQ160_M (QFP, 160-Leads, Body 28 x 28mm, Pitch 0.65mm, IPC Low Density)
3D model XC4004A-PQ160 (160-Pin Plastic Quad Flat Pack (PQ160))
pins: 1 GND (power), 2 A16-PGCK1-I/O (io), 3 A17-I/O (io), 4 I/O (io), 5 I/O (io), 6 TDI-I/O (io), 7 TCK-I/O (io), 8 NC, 9 NC, 10 GND (power), 11 NC, 12 NC, 13 TMS-I/O (io), 14 I/O (io), 15 I/O (io), 16 I/O (io), 17 I/O (io), 18 I/O (io), 19 GND (power), 20 VCC (power), 21 I/O (io), 22 I/O (io), 23 I/O (io), 24 I/O (io), 25 I/O (io), 26 I/O (io), 27 NC, 28 NC, 29 GND (power), 30 NC, 31 NC, 32 I/O (io), 33 I/O (io), 34 I/O (io), 35 I/O (io), 36 I/O (io), 37 SGCK2-I/O (io), 38 M1 (out), 39 GND (power), 40 M0 (in), 41 VCC (power), 42 M2 (in), 43 PGCK2-I/O (io), 44 HDC-I/O (io), 45 I/O (io), 46 I/O (io), 47 I/O (io), 48 ~{LDC}-I/O (io), 49 NC, 50 NC, 51 GND (power), 52 NC, 53 NC, 54 I/O (io), 55 I/O (io), 56 I/O (io), 57 I/O (io), 58 I/O (io), 59 ~{ERR} -~{INIT}-I/O (io), 60 VCC (power), 61 GND (power), 62 I/O (io), 63 I/O (io), 64 I/O (io), 65 I/O (io), 66 I/O (io), 67 I/O (io), 68 NC, 69 NC, 70 GND (power), 71 NC, 72 NC, 73 I/O (io), 74 I/O (io), 75 I/O (io), 76 I/O (io), 77 I/O (io), 78 SGCK3-I/O (io), 79 GND (power), 80 DONE (io), 81 VCC (power), 82 ~{PROG} (in), 83 D7-I/O (io), 84 PGCK3-I/O (io), 85 I/O (io), 86 I/O (io), 87 D6-I/O (io), 88 I/O (io), 89 NC, 90 NC, 91 GND (power), 92 NC, 93 NC, 94 D5-I/O (io), 95 ~{CS0}-I/O (io), 96 I/O (io), 97 I/O (io), 98 D4-I/O (io), 99 I/O (io), 100 VCC (power), 101 GND (power), 102 D3-I/O (io), 103 ~{RS}-I/O (io), 104 I/O (io), 105 I/O (io), 106 D2-I/O (io), 107 I/O (io), 108 NC, 109 NC, 110 GND (power), 111 NC, 112 NC, 113 D1-I/O (io), 114 RCLK-~{BUSY}/RDY-I/O (io), 115 I/O (io), 116 I/O (io), 117 D0-DIN-I/O (io), 118 SGCK4-DOUT-I/O (io), 119 CCLK (io), 120 VCC (power), 121 TDO (out), 122 GND (power), 123 A0-~{WS}-I/O (io), 124 A1-PGCK4-I/O (io), 125 I/O (io), 126 I/O (io), 127 A2-CS1-I/O (io), 128 A3-I/O (io), 129 NC, 130 NC, 131 GND (power), 132 NC, 133 NC, 134 A4-I/O (io), 135 A5-I/O (io), 136 NC, 137 I/O (io), 138 I/O (io), 139 A6-I/O (io), 140 A7-I/O (io), 141 GND (power), 142 VCC (power), 143 A8-I/O (io), 144 A9-I/O (io), 145 I/O (io), 146 I/O (io), 147 A10-I/O (io), 148 A11-I/O (io), 149 NC, 150 NC, 151 GND (power), 152 NC, 153 NC, 154 A12-I/O (io), 155 A13-I/O (io), 156 I/O (io), 157 I/O (io), 158 A14-I/O (io), 159 A15-SGCK1-I/O (io), 160 VCC (power)

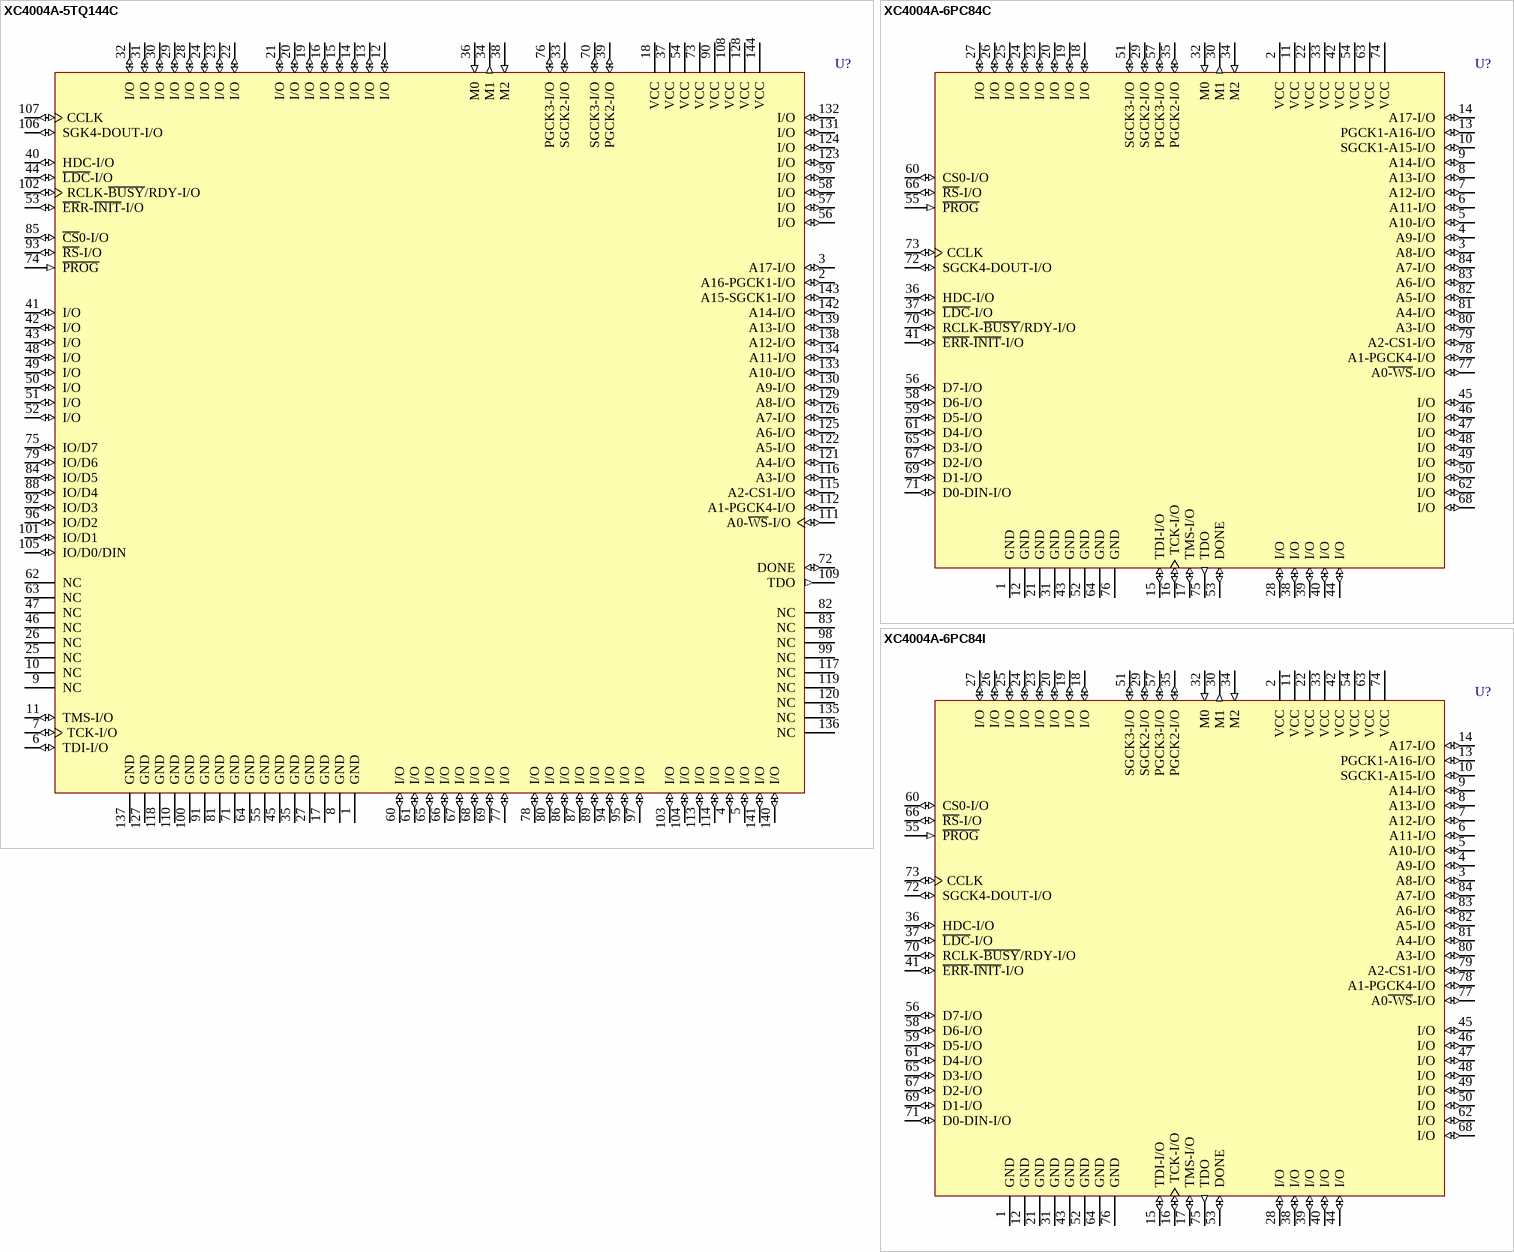
[diagram p16: symbols XC4004A-5TQ144C to XC4004A-6PC84I]

## XC4004A-5TQ144C
designator U?
Logic Cell Array, with 96 I/O Pins, 144-Pin TQFP, Commercial Grade; ComponentAvailability: Not for New Design; Published: 8-Jun-2000; LatestRevisionDate: 13-Apr-2006; LatestRevisionNote: IPC-7351 Footprint Added.; DatasheetVersion: 1994; PackageVersion: ver1.2, Jun-2004; PackageReference: TQ144; Publisher: Altium Limited; PackageDescription: 144-Pin Thin Quad Flat Pack (TQ144); Code_JEDEC: MS-026-BFB; ComponentLink1Description: Manufacturer Link; ComponentLink1URL: http://www.xilinx.com/; ComponentLink2Description: Datasheet; ComponentLink2URL: http://direct.xilinx.com/bvdocs/publications/4000.pdf
footprint TQ144_N (Thin QFP, 144-Leads, Body 20x20mm, Pitch 0.5mm, IPC Medium Density)
footprint TQ144_L (Thin QFP, 144-Leads, Body 20x20mm, Pitch 0.5mm, IPC High Density)
footprint TQ144_M (Thin QFP, 144-Leads, Body 20x20mm, Pitch 0.5mm, IPC Low Density)
3D model XC4004A-TQ144 (144-Pin Thin Quad Flat Pack (TQ144))
pins: 1 GND (power), 2 A16-PGCK1-I/O (io), 3 A17-I/O (io), 4 I/O (io), 5 I/O (io), 6 TDI-I/O (io), 7 TCK-I/O (io), 8 GND (power), 9 NC, 10 NC, 11 TMS-I/O (io), 12 I/O (io), 13 I/O (io), 14 I/O (io), 15 I/O (io), 16 I/O (io), 17 GND (power), 18 VCC (power), 19 I/O (io), 20 I/O (io), 21 I/O (io), 22 I/O (io), 23 I/O (io), 24 I/O (io), 25 NC, 26 NC, 27 GND (power), 28 I/O (io), 29 I/O (io), 30 I/O (io), 31 I/O (io), 32 I/O (io), 33 SGCK2-I/O (io), 34 M1 (out), 35 GND (power), 36 M0 (in), 37 VCC (power), 38 M2 (in), 39 PGCK2-I/O (io), 40 HDC-I/O (io), 41 I/O (io), 42 I/O (io), 43 I/O (io), 44 ~{LDC}-I/O (io), 45 GND (power), 46 NC, 47 NC, 48 I/O (io), 49 I/O (io), 50 I/O (io), 51 I/O (io), 52 I/O (io), 53 ~{ER}R-~{INIT}-I/O (io), 54 VCC (power), 55 GND (power), 56 I/O (io), 57 I/O (io), 58 I/O (io), 59 I/O (io), 60 I/O (io), 61 I/O (io), 62 NC, 63 NC, 64 GND (power), 65 I/O (io), 66 I/O (io), 67 I/O (io), 68 I/O (io), 69 I/O (io), 70 SGCK3-I/O (io), 71 GND (power), 72 DONE (io), 73 VCC (power), 74 ~{PROG} (in), 75 IO/D7 (io), 76 PGCK3-I/O (io), 77 I/O (io), 78 I/O (io), 79 IO/D6 (io), 80 I/O (io), 81 GND (power), 82 NC, 83 NC, 84 IO/D5 (io), 85 ~{CS}0-I/O (io), 86 I/O (io), 87 I/O (io), 88 IO/D4 (io), 89 I/O (io), 90 VCC (power), 91 GND (power), 92 IO/D3 (io), 93 ~{RS}-I/O (io), 94 I/O (io), 95 I/O (io), 96 IO/D2 (io), 97 I/O (io), 98 NC, 99 NC, 100 GND (power), 101 IO/D1 (io), 102 RCLK-~{BUSY}/RDY-I/O (io), 103 I/O (io), 104 I/O (io), 105 IO/D0/DIN (io), 106 SGK4-DOUT-I/O (io), 107 CCLK (io), 108 VCC (power), 109 TDO (out), 110 GND (power), 111 A0-~{WS}-I/O (io), 112 A1-PGCK4-I/O (io), 113 I/O (io), 114 I/O (io), 115 A2-CS1-I/O (io), 116 A3-I/O (io), 117 NC, 118 GND (power), 119 NC, 120 NC, 121 A4-I/O (io), 122 A5-I/O (io), 123 I/O (io), 124 I/O (io), 125 A6-I/O (io), 126 A7-I/O (io), 127 GND (power), 128 VCC (power), 129 A8-I/O (io), 130 A9-I/O (io), 131 I/O (io), 132 I/O (io), 133 A10-I/O (io), 134 A11-I/O (io), 135 NC, 136 NC, 137 GND (power), 138 A12-I/O (io), 139 A13-I/O (io), 140 I/O (io), 141 I/O (io), 142 A14-I/O (io), 143 A15-SGCK1-I/O (io), 144 VCC (power)

## XC4004A-6PC84C
designator U?
Logic Cell Array, with 61 I/O Pins, 84-Pin PLCC, Commercial Grade; ComponentAvailability: Not for New Design; Published: 8-Jun-2000; LatestRevisionDate: 13-Apr-2006; LatestRevisionNote: IPC-7351 Footprint Added.; DatasheetVersion: 1994; PackageVersion: ver1.2, Jun-2004; PackageReference: PC84; Publisher: Altium Limited; PackageDescription: 84-Pin Plastic Leaded Chip Carrier (PC84); Code_JEDEC: MS-047; Code_IPC: PLCC-84; ComponentLink1Description: Manufacturer Link; ComponentLink1URL: http://www.xilinx.com/; ComponentLink2Description: Datasheet; ComponentLink2URL: http://direct.xilinx.com/bvdocs/publications/4000.pdf
footprint PC84_N (Leaded Chip Carrier, 84-Leads, Body 29.3x29.3mm, Pitch 1.27mm, IPC Medium Density)
footprint PC84_L (Leaded Chip Carrier, 84-Leads, Body 29.3x29.3mm, Pitch 1.27mm, IPC High Density)
footprint PC84_M (Leaded Chip Carrier, 84-Leads, Body 29.3x29.3mm, Pitch 1.27mm, IPC Low Density)
3D model XC4004A-PC84 (84-Pin Plastic Leaded Chip Carrier (PC84))
pins: 1 GND (power), 2 VCC (power), 3 A8-I/O (io), 4 A9-I/O (io), 5 A10-I/O (io), 6 A11-I/O (io), 7 A12-I/O (io), 8 A13-I/O (io), 9 A14-I/O (io), 10 SGCK1-A15-I/O (io), 11 VCC (power), 12 GND (power), 13 PGCK1-A16-I/O (io), 14 A17-I/O (io), 15 TDI-I/O (io), 16 TCK-I/O (io), 17 TMS-I/O (io), 18 I/O (io), 19 I/O (io), 20 I/O (io), 21 GND (power), 22 VCC (power), 23 I/O (io), 24 I/O (io), 25 I/O (io), 26 I/O (io), 27 I/O (io), 28 I/O (io), 29 SGCK2-I/O (io), 30 M1 (out), 31 GND (power), 32 M0 (in), 33 VCC (power), 34 M2 (in), 35 PGCK2-I/O (io), 36 HDC-I/O (io), 37 ~{LDC}-I/O (io), 38 I/O (io), 39 I/O (io), 40 I/O (io), 41 ~{ERR}-~{INIT}-I/O (io), 42 VCC (power), 43 GND (power), 44 I/O (io), 45 I/O (io), 46 I/O (io), 47 I/O (io), 48 I/O (io), 49 I/O (io), 50 I/O (io), 51 SGCK3-I/O (io), 52 GND (power), 53 DONE (io), 54 VCC (power), 55 ~{PROG} (in), 56 D7-I/O (io), 57 PGCK3-I/O (io), 58 D6-I/O (io), 59 D5-I/O (io), 60 CS0-I/O (io), 61 D4-I/O (io), 62 I/O (io), 63 VCC (power), 64 GND (power), 65 D3-I/O (io), 66 ~{RS}-I/O (io), 67 D2-I/O (io), 68 I/O (io), 69 D1-I/O (io), 70 RCLK-~{BUSY}/RDY-I/O (io), 71 D0-DIN-I/O (io), 72 SGCK4-DOUT-I/O (io), 73 CCLK (io), 74 VCC (power), 75 TDO (out), 76 GND (power), 77 A0~{-WS}-I/O (io), 78 A1-PGCK4-I/O (io), 79 A2-CS1-I/O (io), 80 A3-I/O (io), 81 A4-I/O (io), 82 A5-I/O (io), 83 A6-I/O (io), 84 A7-I/O (io)

## XC4004A-6PC84I
designator U?
Logic Cell Array, with 61 I/O Pins, 84-Pin PLCC, Industrial Grade; ComponentAvailability: Not for New Design; Published: 8-Jun-2000; LatestRevisionDate: 13-Apr-2006; LatestRevisionNote: IPC-7351 Footprint Added.; DatasheetVersion: 1994; PackageVersion: ver1.2, Jun-2004; PackageReference: PC84; Publisher: Altium Limited; PackageDescription: 84-Pin Plastic Leaded Chip Carrier (PC84); Code_JEDEC: MS-047; Code_IPC: PLCC-84; ComponentLink1Description: Manufacturer Link; ComponentLink1URL: http://www.xilinx.com/; ComponentLink2Description: Datasheet; ComponentLink2URL: http://direct.xilinx.com/bvdocs/publications/4000.pdf
footprint PC84_N (Leaded Chip Carrier, 84-Leads, Body 29.3x29.3mm, Pitch 1.27mm, IPC Medium Density)
footprint PC84_L (Leaded Chip Carrier, 84-Leads, Body 29.3x29.3mm, Pitch 1.27mm, IPC High Density)
footprint PC84_M (Leaded Chip Carrier, 84-Leads, Body 29.3x29.3mm, Pitch 1.27mm, IPC Low Density)
3D model XC4004A-PC84 (84-Pin Plastic Leaded Chip Carrier (PC84))
pins: 1 GND (power), 2 VCC (power), 3 A8-I/O (io), 4 A9-I/O (io), 5 A10-I/O (io), 6 A11-I/O (io), 7 A12-I/O (io), 8 A13-I/O (io), 9 A14-I/O (io), 10 SGCK1-A15-I/O (io), 11 VCC (power), 12 GND (power), 13 PGCK1-A16-I/O (io), 14 A17-I/O (io), 15 TDI-I/O (io), 16 TCK-I/O (io), 17 TMS-I/O (io), 18 I/O (io), 19 I/O (io), 20 I/O (io), 21 GND (power), 22 VCC (power), 23 I/O (io), 24 I/O (io), 25 I/O (io), 26 I/O (io), 27 I/O (io), 28 I/O (io), 29 SGCK2-I/O (io), 30 M1 (out), 31 GND (power), 32 M0 (in), 33 VCC (power), 34 M2 (in), 35 PGCK2-I/O (io), 36 HDC-I/O (io), 37 ~{LDC}-I/O (io), 38 I/O (io), 39 I/O (io), 40 I/O (io), 41 ~{ERR}-~{INIT}-I/O (io), 42 VCC (power), 43 GND (power), 44 I/O (io), 45 I/O (io), 46 I/O (io), 47 I/O (io), 48 I/O (io), 49 I/O (io), 50 I/O (io), 51 SGCK3-I/O (io), 52 GND (power), 53 DONE (io), 54 VCC (power), 55 ~{PROG} (in), 56 D7-I/O (io), 57 PGCK3-I/O (io), 58 D6-I/O (io), 59 D5-I/O (io), 60 CS0-I/O (io), 61 D4-I/O (io), 62 I/O (io), 63 VCC (power), 64 GND (power), 65 D3-I/O (io), 66 ~{RS}-I/O (io), 67 D2-I/O (io), 68 I/O (io), 69 D1-I/O (io), 70 RCLK-~{BUSY}/RDY-I/O (io), 71 D0-DIN-I/O (io), 72 SGCK4-DOUT-I/O (io), 73 CCLK (io), 74 VCC (power), 75 TDO (out), 76 GND (power), 77 A0~{-WS}-I/O (io), 78 A1-PGCK4-I/O (io), 79 A2-CS1-I/O (io), 80 A3-I/O (io), 81 A4-I/O (io), 82 A5-I/O (io), 83 A6-I/O (io), 84 A7-I/O (io)

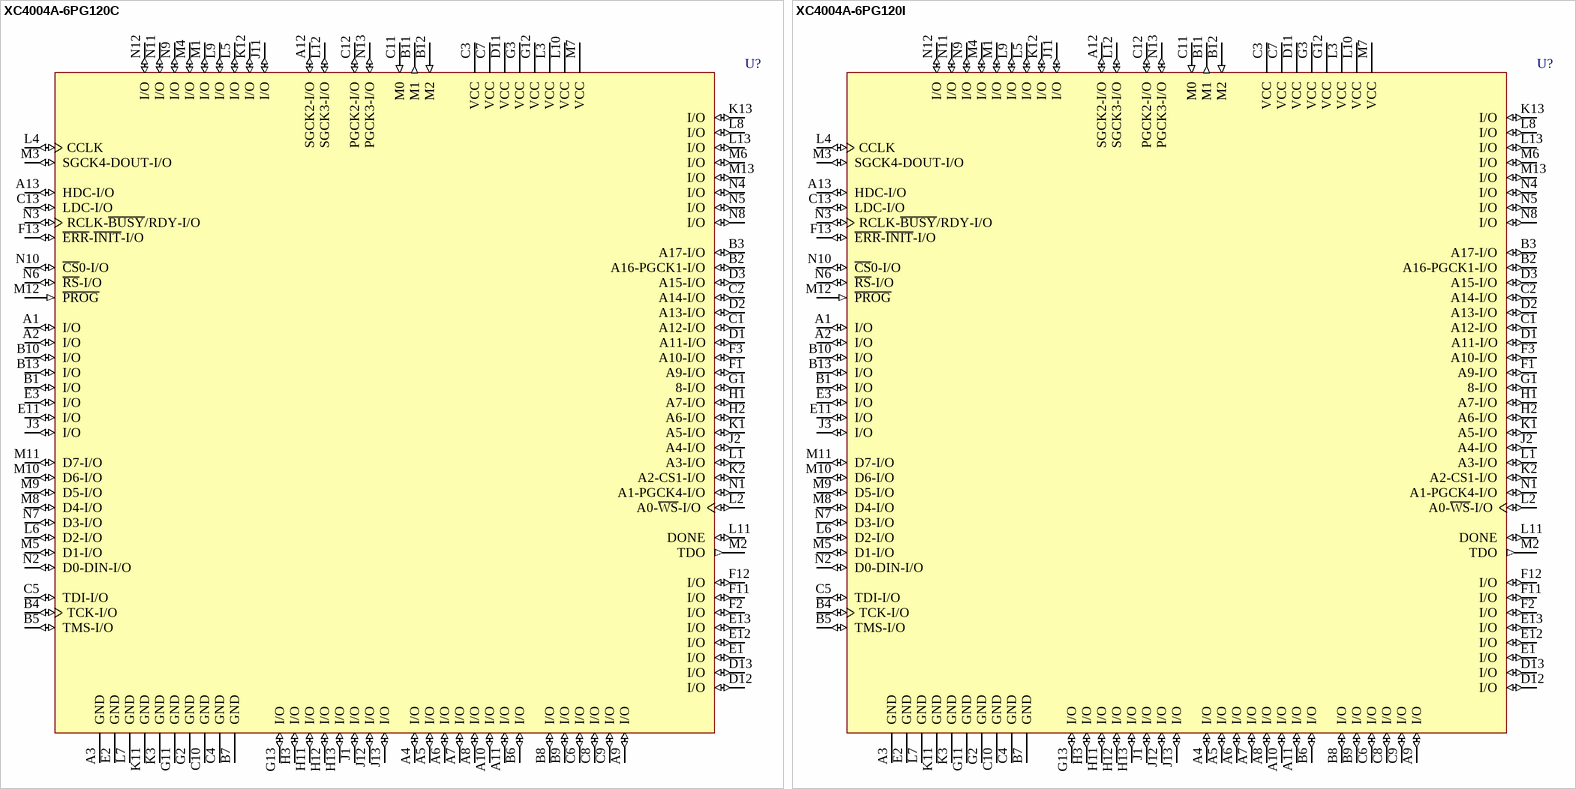
[diagram p17: symbols XC4004A-6PG120C to XC4004A-6PG120I]

## XC4004A-6PG120C
designator U?
Logic Cell Array, with 95 I/O Pins, 120-Pin PGA, Commercial Grade; ComponentAvailability: Not for New Design; Published: 8-Jun-2000; LatestRevisionDate: 04-Mar-2005; LatestRevisionNote: Stylized 3D Model Added.; DatasheetVersion: 1994; PackageVersion: ver1.1, Apr-2001; PackageReference: PG120; Publisher: Altium Limited; PackageDescription: 120-Pin Ceramic Pin Grid Array (PG120); Code_JEDEC: MO-067-AE; ComponentLink1Description: Manufacturer Link; ComponentLink1URL: http://www.xilinx.com/; ComponentLink2Description: Datasheet; ComponentLink2URL: http://direct.xilinx.com/bvdocs/publications/4000.pdf
footprint PG120 (PGA, 120-Leads, Body 34.5x34.5mm, Pitch 2.54mm)
3D model XC4004A-PG120 (120-Pin Ceramic Pin Grid Array (PG120))
pins: A1 I/O (io), A2 I/O (io), A3 GND (power), A4 I/O (io), A5 I/O (io), A6 I/O (io), A7 I/O (io), A8 I/O (io), A9 I/O (io), A10 I/O (io), A11 I/O (io), A12 SGCK2-I/O (io), A13 HDC-I/O (io), B1 I/O (io), B2 A16-PGCK1-I/O (io), B3 A17-I/O (io), B4 TCK-I/O (io), B5 TMS-I/O (io), B6 I/O (io), B7 GND (power), B8 I/O (io), B9 I/O (io), B10 I/O (io), B11 M1 (out), B12 M2 (in), B13 I/O (io), C1 A12-I/O (io), C2 A14-I/O (io), C3 VCC (power), C4 GND (power), C5 TDI-I/O (io), C6 I/O (io), C7 VCC (power), C8 I/O (io), C9 I/O (io), C10 GND (power), C11 M0 (in), C12 PGCK2-I/O (io), C13 LDC-I/O (io), D1 A11-I/O (io), D2 A13-I/O (io), D3 A15-I/O (io), D11 VCC (power), D12 I/O (io), D13 I/O (io), E1 I/O (io), E2 GND (power), E3 I/O (io), E11 I/O (io), E12 I/O (io), E13 I/O (io), F1 A9-I/O (io), F2 I/O (io), F3 A10-I/O (io), F11 I/O (io), F12 I/O (io), F13 ~{ERR}-~{INIT}-I/O (io), G1 8-I/O (io), G2 GND (power), G3 VCC (power), G11 GND (power), G12 VCC (power), G13 I/O (io), H1 A7-I/O (io), H2 A6-I/O (io), H3 I/O (io), H11 I/O (io), H12 I/O (io), H13 I/O (io), J1 I/O (io), J2 A4-I/O (io), J3 I/O (io), J11 I/O (io), J12 I/O (io), J13 I/O (io), K1 A5-I/O (io), K2 A2-CS1-I/O (io), K3 GND (power), K11 GND (power), K12 I/O (io), K13 I/O (io), L1 A3-I/O (io), L2 A0-~{WS}-I/O (io), L3 VCC (power), L4 CCLK (io), L5 I/O (io), L6 D2-I/O (io), L7 GND (power), L8 I/O (io), L9 I/O (io), L10 VCC (power), L11 DONE (io), L12 SGCK3-I/O (io), L13 I/O (io), M1 I/O (io), M2 TDO (out), M3 SGCK4-DOUT-I/O (io), M4 I/O (io), M5 D1-I/O (io), M6 I/O (io), M7 VCC (power), M8 D4-I/O (io), M9 D5-I/O (io), M10 D6-I/O (io), M11 D7-I/O (io), M12 ~{PROG} (in), M13 I/O (io), N1 A1-PGCK4-I/O (io), N2 D0-DIN-I/O (io), N3 RCLK-~{BUSY}/RDY-I/O (io), N4 I/O (io), N5 I/O (io), N6 ~{RS}-I/O (io), N7 D3-I/O (io), N8 I/O (io), N9 I/O (io), N10 ~{CS}0-I/O (io), N11 I/O (io), N12 I/O (io), N13 PGCK3-I/O (io)

## XC4004A-6PG120I
designator U?
Logic Cell Array, with 95 I/O Pins, 120-Pin PGA, Industrial Grade; ComponentAvailability: Not for New Design; Published: 8-Jun-2000; LatestRevisionDate: 04-Mar-2005; LatestRevisionNote: Stylized 3D Model Added.; DatasheetVersion: 1994; PackageVersion: ver1.1, Apr-2001; PackageReference: PG120; Publisher: Altium Limited; PackageDescription: 120-Pin Ceramic Pin Grid Array (PG120); Code_JEDEC: MO-067-AE; ComponentLink1Description: Manufacturer Link; ComponentLink1URL: http://www.xilinx.com/; ComponentLink2Description: Datasheet; ComponentLink2URL: http://direct.xilinx.com/bvdocs/publications/4000.pdf
footprint PG120 (PGA, 120-Leads, Body 34.5x34.5mm, Pitch 2.54mm)
3D model XC4004A-PG120 (120-Pin Ceramic Pin Grid Array (PG120))
pins: A1 I/O (io), A2 I/O (io), A3 GND (power), A4 I/O (io), A5 I/O (io), A6 I/O (io), A7 I/O (io), A8 I/O (io), A9 I/O (io), A10 I/O (io), A11 I/O (io), A12 SGCK2-I/O (io), A13 HDC-I/O (io), B1 I/O (io), B2 A16-PGCK1-I/O (io), B3 A17-I/O (io), B4 TCK-I/O (io), B5 TMS-I/O (io), B6 I/O (io), B7 GND (power), B8 I/O (io), B9 I/O (io), B10 I/O (io), B11 M1 (out), B12 M2 (in), B13 I/O (io), C1 A12-I/O (io), C2 A14-I/O (io), C3 VCC (power), C4 GND (power), C5 TDI-I/O (io), C6 I/O (io), C7 VCC (power), C8 I/O (io), C9 I/O (io), C10 GND (power), C11 M0 (in), C12 PGCK2-I/O (io), C13 LDC-I/O (io), D1 A11-I/O (io), D2 A13-I/O (io), D3 A15-I/O (io), D11 VCC (power), D12 I/O (io), D13 I/O (io), E1 I/O (io), E2 GND (power), E3 I/O (io), E11 I/O (io), E12 I/O (io), E13 I/O (io), F1 A9-I/O (io), F2 I/O (io), F3 A10-I/O (io), F11 I/O (io), F12 I/O (io), F13 ~{ERR}-~{INIT}-I/O (io), G1 8-I/O (io), G2 GND (power), G3 VCC (power), G11 GND (power), G12 VCC (power), G13 I/O (io), H1 A7-I/O (io), H2 A6-I/O (io), H3 I/O (io), H11 I/O (io), H12 I/O (io), H13 I/O (io), J1 I/O (io), J2 A4-I/O (io), J3 I/O (io), J11 I/O (io), J12 I/O (io), J13 I/O (io), K1 A5-I/O (io), K2 A2-CS1-I/O (io), K3 GND (power), K11 GND (power), K12 I/O (io), K13 I/O (io), L1 A3-I/O (io), L2 A0-~{WS}-I/O (io), L3 VCC (power), L4 CCLK (io), L5 I/O (io), L6 D2-I/O (io), L7 GND (power), L8 I/O (io), L9 I/O (io), L10 VCC (power), L11 DONE (io), L12 SGCK3-I/O (io), L13 I/O (io), M1 I/O (io), M2 TDO (out), M3 SGCK4-DOUT-I/O (io), M4 I/O (io), M5 D1-I/O (io), M6 I/O (io), M7 VCC (power), M8 D4-I/O (io), M9 D5-I/O (io), M10 D6-I/O (io), M11 D7-I/O (io), M12 ~{PROG} (in), M13 I/O (io), N1 A1-PGCK4-I/O (io), N2 D0-DIN-I/O (io), N3 RCLK-~{BUSY}/RDY-I/O (io), N4 I/O (io), N5 I/O (io), N6 ~{RS}-I/O (io), N7 D3-I/O (io), N8 I/O (io), N9 I/O (io), N10 ~{CS}0-I/O (io), N11 I/O (io), N12 I/O (io), N13 PGCK3-I/O (io)

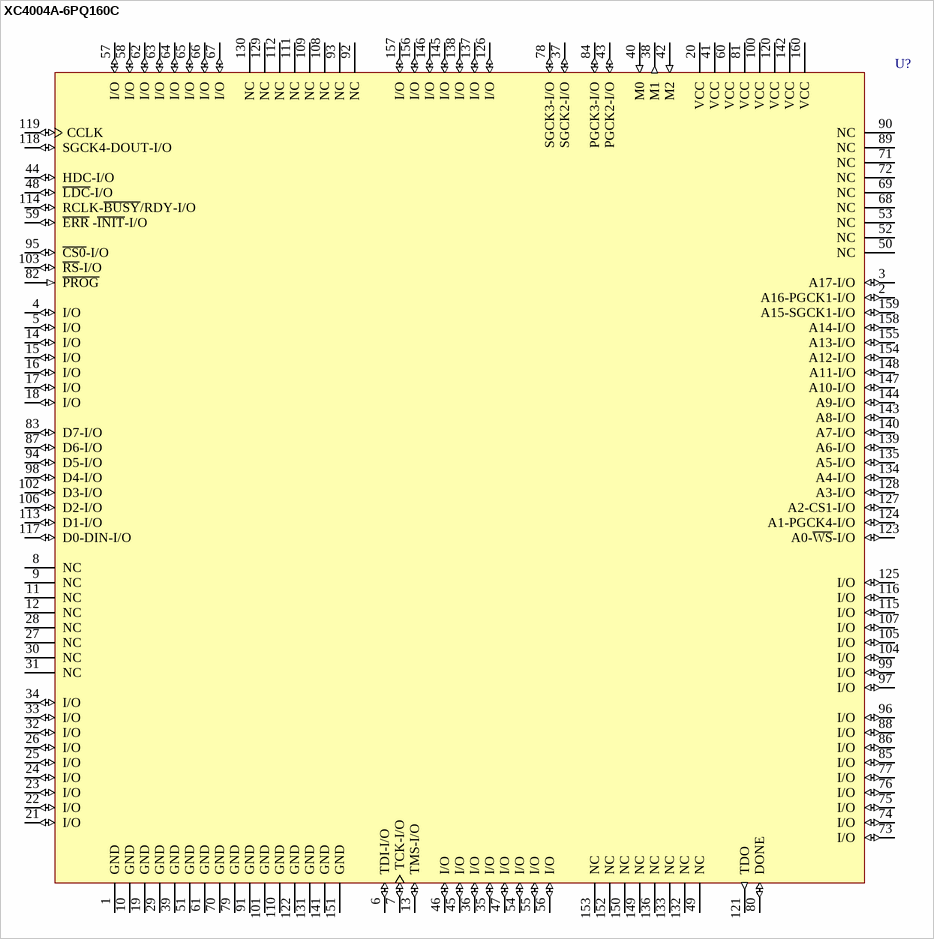
[diagram p18: symbol XC4004A-6PQ160C]

## XC4004A-6PQ160C
designator U?
Logic Cell Array, with 96 I/O Pins, 160-Pin PQFP, Commercial Grade; ComponentAvailability: Not for New Design; Published: 8-Jun-2000; LatestRevisionDate: 13-Apr-2006; LatestRevisionNote: IPC-7351 Footprint Added.; DatasheetVersion: 1994; PackageVersion: ver1.2, Jun-2004; PackageReference: PQ160; Publisher: Altium Limited; PackageDescription: 160-Pin Plastic Quad Flat Pack (PQ160); Code_JEDEC: MS-022-DD1; Code_IPC: QFP65P3120X3120-160; ComponentLink1Description: Manufacturer Link; ComponentLink1URL: http://www.xilinx.com/; ComponentLink2Description: Datasheet; ComponentLink2URL: http://direct.xilinx.com/bvdocs/publications/4000.pdf
footprint PQ160_N (QFP, 160-Leads, Body 28 x 28mm, Pitch 0.65mm, IPC Medium Density)
footprint PQ160_L (QFP, 160-Leads, Body 28 x 28mm, Pitch 0.65mm, IPC High Density)
footprint PQ160_M (QFP, 160-Leads, Body 28 x 28mm, Pitch 0.65mm, IPC Low Density)
3D model XC4004A-PQ160 (160-Pin Plastic Quad Flat Pack (PQ160))
pins: 1 GND (power), 2 A16-PGCK1-I/O (io), 3 A17-I/O (io), 4 I/O (io), 5 I/O (io), 6 TDI-I/O (io), 7 TCK-I/O (io), 8 NC, 9 NC, 10 GND (power), 11 NC, 12 NC, 13 TMS-I/O (io), 14 I/O (io), 15 I/O (io), 16 I/O (io), 17 I/O (io), 18 I/O (io), 19 GND (power), 20 VCC (power), 21 I/O (io), 22 I/O (io), 23 I/O (io), 24 I/O (io), 25 I/O (io), 26 I/O (io), 27 NC, 28 NC, 29 GND (power), 30 NC, 31 NC, 32 I/O (io), 33 I/O (io), 34 I/O (io), 35 I/O (io), 36 I/O (io), 37 SGCK2-I/O (io), 38 M1 (out), 39 GND (power), 40 M0 (in), 41 VCC (power), 42 M2 (in), 43 PGCK2-I/O (io), 44 HDC-I/O (io), 45 I/O (io), 46 I/O (io), 47 I/O (io), 48 ~{LDC}-I/O (io), 49 NC, 50 NC, 51 GND (power), 52 NC, 53 NC, 54 I/O (io), 55 I/O (io), 56 I/O (io), 57 I/O (io), 58 I/O (io), 59 ~{ERR} -~{INIT}-I/O (io), 60 VCC (power), 61 GND (power), 62 I/O (io), 63 I/O (io), 64 I/O (io), 65 I/O (io), 66 I/O (io), 67 I/O (io), 68 NC, 69 NC, 70 GND (power), 71 NC, 72 NC, 73 I/O (io), 74 I/O (io), 75 I/O (io), 76 I/O (io), 77 I/O (io), 78 SGCK3-I/O (io), 79 GND (power), 80 DONE (io), 81 VCC (power), 82 ~{PROG} (in), 83 D7-I/O (io), 84 PGCK3-I/O (io), 85 I/O (io), 86 I/O (io), 87 D6-I/O (io), 88 I/O (io), 89 NC, 90 NC, 91 GND (power), 92 NC, 93 NC, 94 D5-I/O (io), 95 ~{CS0}-I/O (io), 96 I/O (io), 97 I/O (io), 98 D4-I/O (io), 99 I/O (io), 100 VCC (power), 101 GND (power), 102 D3-I/O (io), 103 ~{RS}-I/O (io), 104 I/O (io), 105 I/O (io), 106 D2-I/O (io), 107 I/O (io), 108 NC, 109 NC, 110 GND (power), 111 NC, 112 NC, 113 D1-I/O (io), 114 RCLK-~{BUSY}/RDY-I/O (io), 115 I/O (io), 116 I/O (io), 117 D0-DIN-I/O (io), 118 SGCK4-DOUT-I/O (io), 119 CCLK (io), 120 VCC (power), 121 TDO (out), 122 GND (power), 123 A0-~{WS}-I/O (io), 124 A1-PGCK4-I/O (io), 125 I/O (io), 126 I/O (io), 127 A2-CS1-I/O (io), 128 A3-I/O (io), 129 NC, 130 NC, 131 GND (power), 132 NC, 133 NC, 134 A4-I/O (io), 135 A5-I/O (io), 136 NC, 137 I/O (io), 138 I/O (io), 139 A6-I/O (io), 140 A7-I/O (io), 141 GND (power), 142 VCC (power), 143 A8-I/O (io), 144 A9-I/O (io), 145 I/O (io), 146 I/O (io), 147 A10-I/O (io), 148 A11-I/O (io), 149 NC, 150 NC, 151 GND (power), 152 NC, 153 NC, 154 A12-I/O (io), 155 A13-I/O (io), 156 I/O (io), 157 I/O (io), 158 A14-I/O (io), 159 A15-SGCK1-I/O (io), 160 VCC (power)

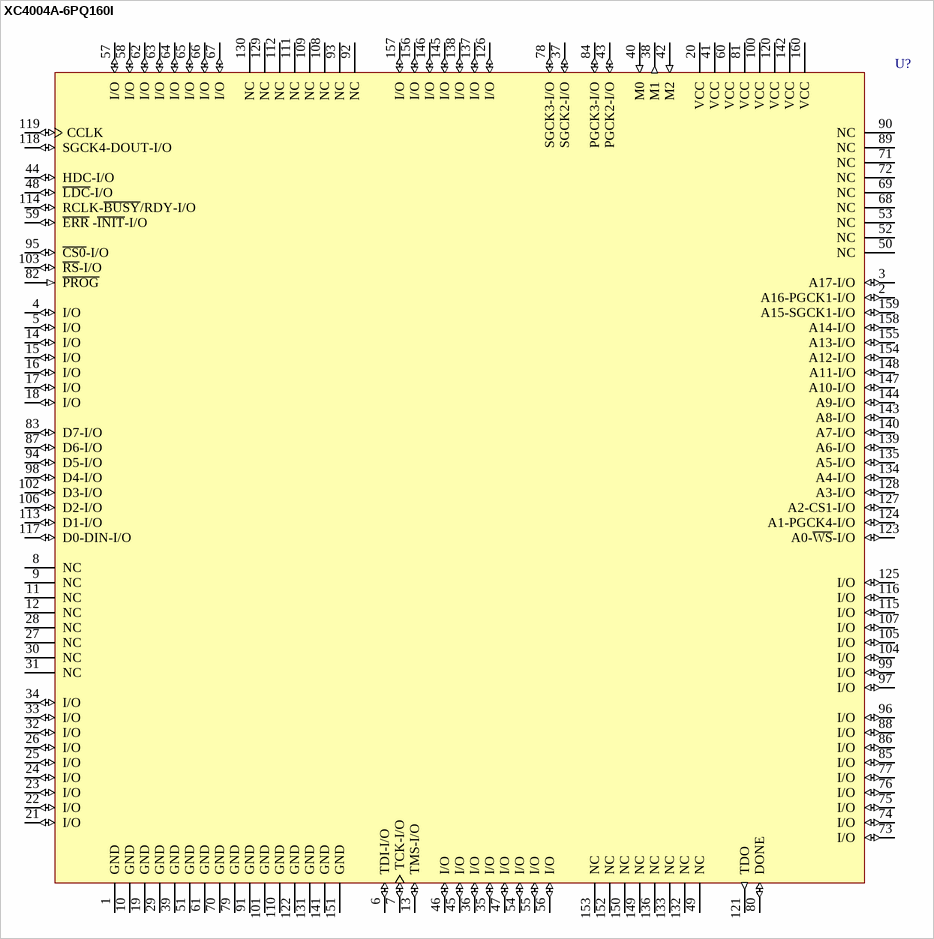
[diagram p19: symbol XC4004A-6PQ160I]

## XC4004A-6PQ160I
designator U?
Logic Cell Array, with 96 I/O Pins, 160-Pin PQFP, Industrial Grade; ComponentAvailability: Not for New Design; Published: 8-Jun-2000; LatestRevisionDate: 13-Apr-2006; LatestRevisionNote: IPC-7351 Footprint Added.; DatasheetVersion: 1994; PackageVersion: ver1.2, Jun-2004; PackageReference: PQ160; Publisher: Altium Limited; PackageDescription: 160-Pin Plastic Quad Flat Pack (PQ160); Code_JEDEC: MS-022-DD1; Code_IPC: QFP65P3120X3120-160; ComponentLink1Description: Manufacturer Link; ComponentLink1URL: http://www.xilinx.com/; ComponentLink2Description: Datasheet; ComponentLink2URL: http://direct.xilinx.com/bvdocs/publications/4000.pdf
footprint PQ160_N (QFP, 160-Leads, Body 28 x 28mm, Pitch 0.65mm, IPC Medium Density)
footprint PQ160_L (QFP, 160-Leads, Body 28 x 28mm, Pitch 0.65mm, IPC High Density)
footprint PQ160_M (QFP, 160-Leads, Body 28 x 28mm, Pitch 0.65mm, IPC Low Density)
3D model XC4004A-PQ160 (160-Pin Plastic Quad Flat Pack (PQ160))
pins: 1 GND (power), 2 A16-PGCK1-I/O (io), 3 A17-I/O (io), 4 I/O (io), 5 I/O (io), 6 TDI-I/O (io), 7 TCK-I/O (io), 8 NC, 9 NC, 10 GND (power), 11 NC, 12 NC, 13 TMS-I/O (io), 14 I/O (io), 15 I/O (io), 16 I/O (io), 17 I/O (io), 18 I/O (io), 19 GND (power), 20 VCC (power), 21 I/O (io), 22 I/O (io), 23 I/O (io), 24 I/O (io), 25 I/O (io), 26 I/O (io), 27 NC, 28 NC, 29 GND (power), 30 NC, 31 NC, 32 I/O (io), 33 I/O (io), 34 I/O (io), 35 I/O (io), 36 I/O (io), 37 SGCK2-I/O (io), 38 M1 (out), 39 GND (power), 40 M0 (in), 41 VCC (power), 42 M2 (in), 43 PGCK2-I/O (io), 44 HDC-I/O (io), 45 I/O (io), 46 I/O (io), 47 I/O (io), 48 ~{LDC}-I/O (io), 49 NC, 50 NC, 51 GND (power), 52 NC, 53 NC, 54 I/O (io), 55 I/O (io), 56 I/O (io), 57 I/O (io), 58 I/O (io), 59 ~{ERR} -~{INIT}-I/O (io), 60 VCC (power), 61 GND (power), 62 I/O (io), 63 I/O (io), 64 I/O (io), 65 I/O (io), 66 I/O (io), 67 I/O (io), 68 NC, 69 NC, 70 GND (power), 71 NC, 72 NC, 73 I/O (io), 74 I/O (io), 75 I/O (io), 76 I/O (io), 77 I/O (io), 78 SGCK3-I/O (io), 79 GND (power), 80 DONE (io), 81 VCC (power), 82 ~{PROG} (in), 83 D7-I/O (io), 84 PGCK3-I/O (io), 85 I/O (io), 86 I/O (io), 87 D6-I/O (io), 88 I/O (io), 89 NC, 90 NC, 91 GND (power), 92 NC, 93 NC, 94 D5-I/O (io), 95 ~{CS0}-I/O (io), 96 I/O (io), 97 I/O (io), 98 D4-I/O (io), 99 I/O (io), 100 VCC (power), 101 GND (power), 102 D3-I/O (io), 103 ~{RS}-I/O (io), 104 I/O (io), 105 I/O (io), 106 D2-I/O (io), 107 I/O (io), 108 NC, 109 NC, 110 GND (power), 111 NC, 112 NC, 113 D1-I/O (io), 114 RCLK-~{BUSY}/RDY-I/O (io), 115 I/O (io), 116 I/O (io), 117 D0-DIN-I/O (io), 118 SGCK4-DOUT-I/O (io), 119 CCLK (io), 120 VCC (power), 121 TDO (out), 122 GND (power), 123 A0-~{WS}-I/O (io), 124 A1-PGCK4-I/O (io), 125 I/O (io), 126 I/O (io), 127 A2-CS1-I/O (io), 128 A3-I/O (io), 129 NC, 130 NC, 131 GND (power), 132 NC, 133 NC, 134 A4-I/O (io), 135 A5-I/O (io), 136 NC, 137 I/O (io), 138 I/O (io), 139 A6-I/O (io), 140 A7-I/O (io), 141 GND (power), 142 VCC (power), 143 A8-I/O (io), 144 A9-I/O (io), 145 I/O (io), 146 I/O (io), 147 A10-I/O (io), 148 A11-I/O (io), 149 NC, 150 NC, 151 GND (power), 152 NC, 153 NC, 154 A12-I/O (io), 155 A13-I/O (io), 156 I/O (io), 157 I/O (io), 158 A14-I/O (io), 159 A15-SGCK1-I/O (io), 160 VCC (power)

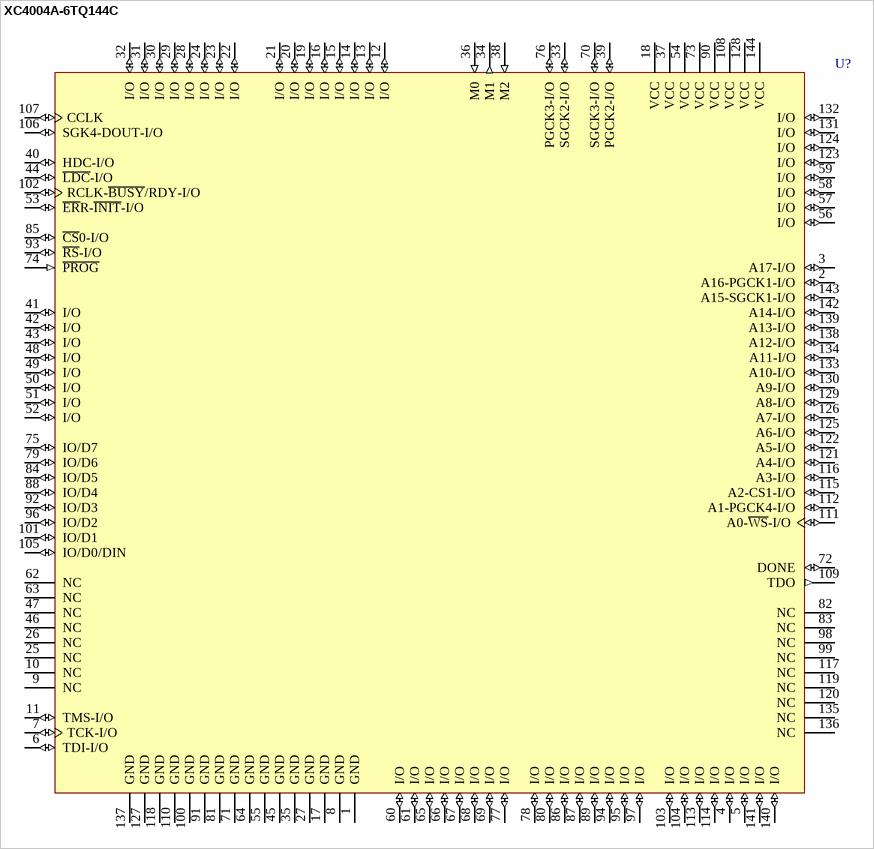
[diagram p20: symbol XC4004A-6TQ144C]